# Altium schematic symbol library SamacSys.SchLib: 1311 symbols (part 10 of 14)
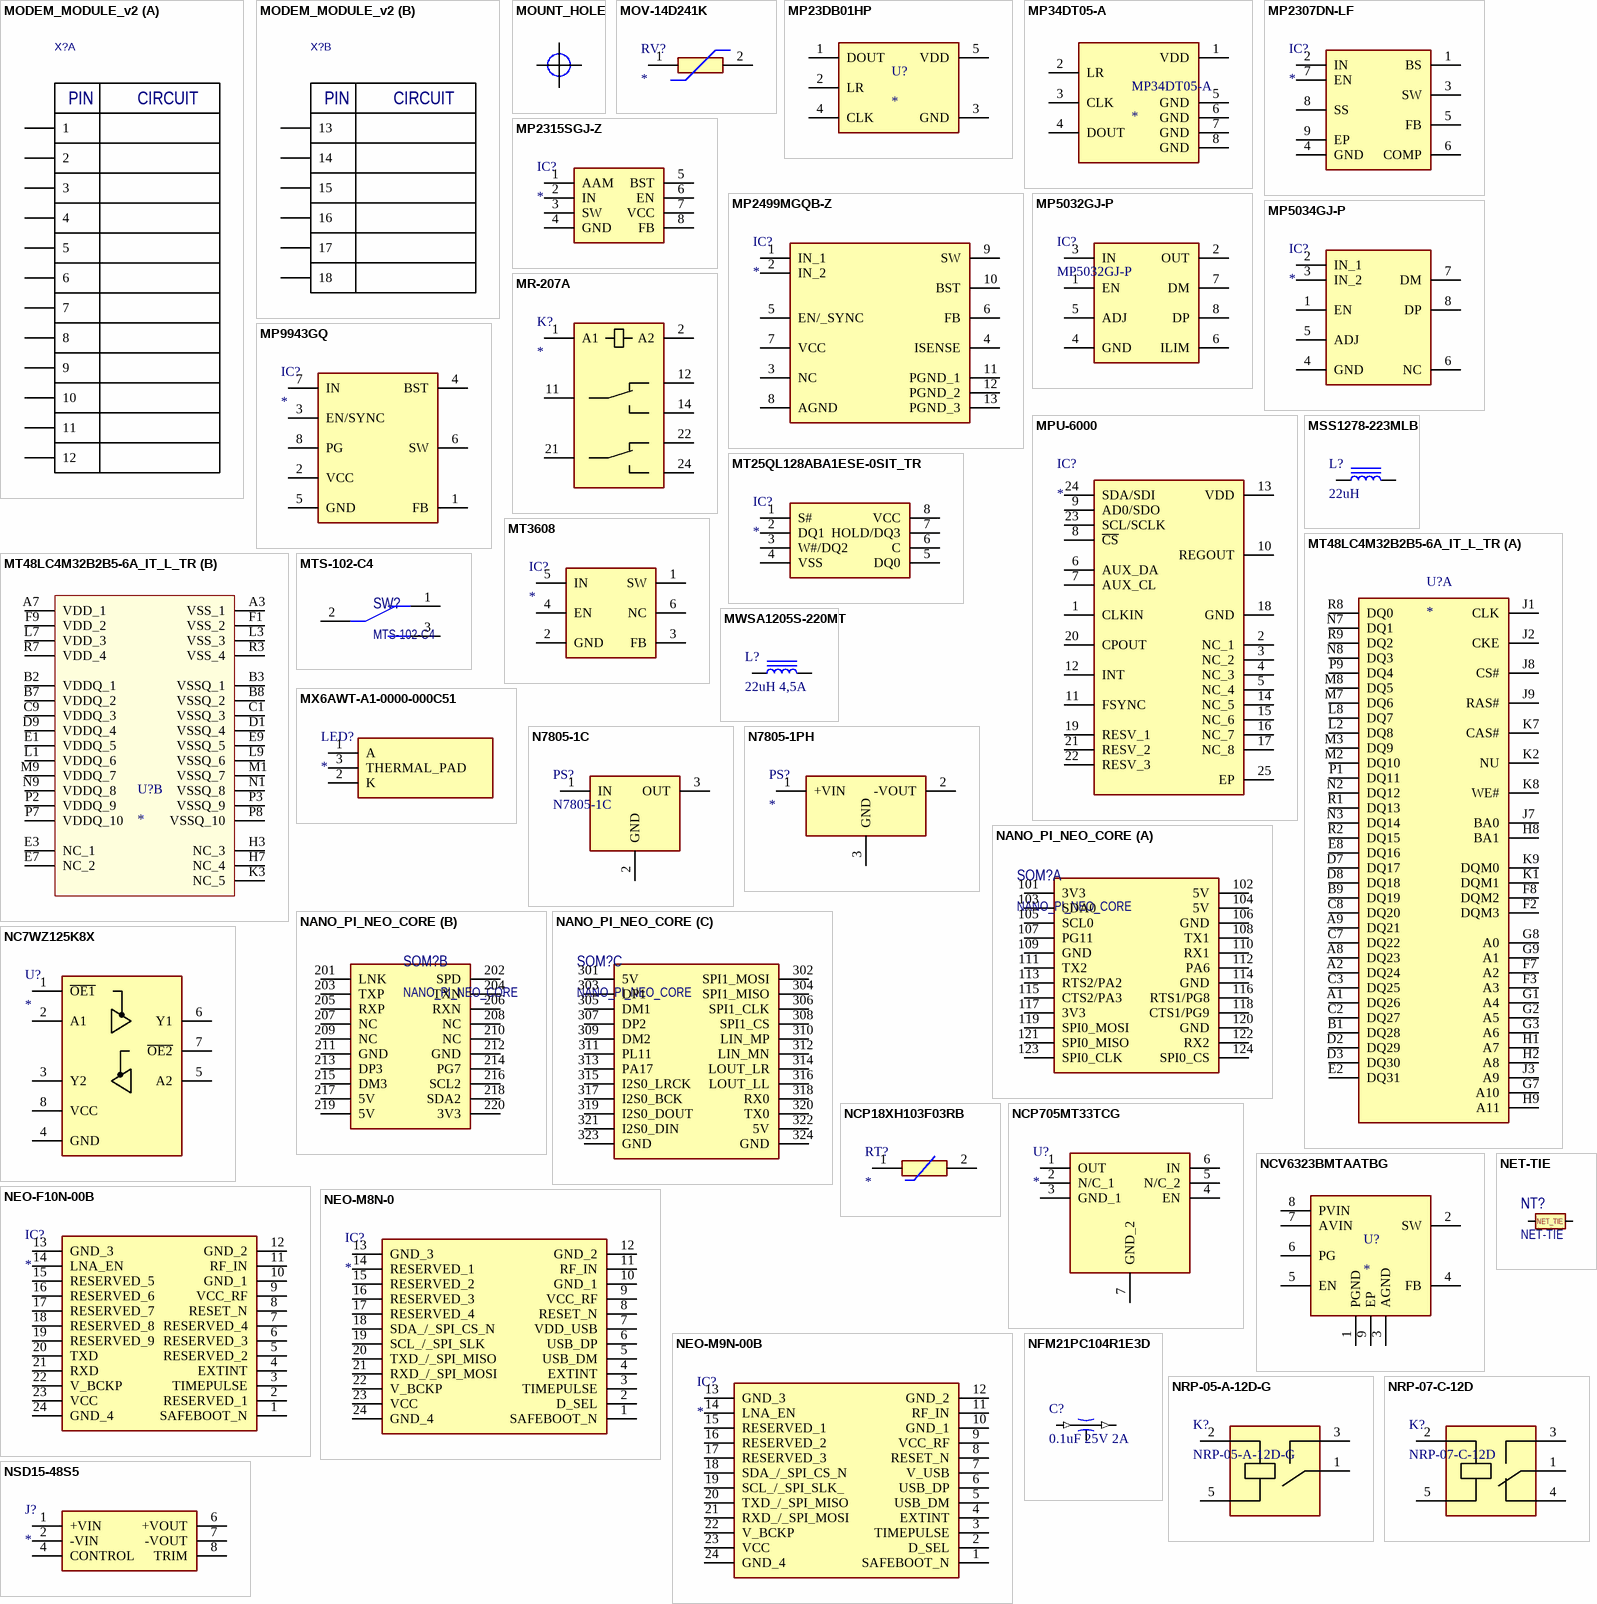
[diagram p59: symbols MODEM_MODULE_v2 to NSD15-48S5]

## NCV6323BMTAATBG
designator U?
Integrated Circuit; Manufacturer_Name: ON Semiconductor; Manufacturer_Part_Number: NCV6323BMTAATBG; Datasheet Link: http://www.onsemi.com/pub/Collateral/NCV6323-D.PDF; Height: 0.8mm; Mouser Part Number: 863-NCV6323BMTAATBG; Mouser Price/Stock: https://www.mouser.com/Search/Refine.aspx?Keyword=863-NCV6323BMTAATBG; Arrow Part Number: NCV6323BMTAATBG; Arrow Price/Stock: https://www.arrow.com/en/products/ncv6323bmtaatbg/on-semiconductor
footprint SON50P200X200X80-9N
pins: 1 PGND, 2 SW, 3 AGND, 4 FB, 5 EN, 6 PG, 7 AVIN, 8 PVIN, 9 EP

## NEO-F10N-00B
designator IC?
Integrated Circuit; Manufacturer_Name: u-blox; Manufacturer_Part_Number: NEO-F10N-00B; Datasheet Link: https://content.u-blox.com/sites/default/files/documents/NEO-F10N_DataSheet_UBX-23002117.pdf; Height: 2.6mm; Mouser Part Number: 377-NEO-F10N-00B; Mouser Price/Stock: https://www.mouser.co.uk/ProductDetail/u-blox/NEO-F10N-00B?qs=Imq1NPwxi76uVH%2FItRhLgw%3D%3D; Arrow Part Number: NEO-F10N-00B; Arrow Price/Stock: null?region=nac
footprint NEOF10N00B (Footprint not found)
pins: 1 SAFEBOOT_N, 2 RESERVED_1, 3 TIMEPULSE, 4 EXTINT, 5 RESERVED_2, 6 RESERVED_3, 7 RESERVED_4, 8 RESET_N, 9 VCC_RF, 10 GND_1, 11 RF_IN, 12 GND_2, 13 GND_3, 14 LNA_EN, 15 RESERVED_5, 16 RESERVED_6, 17 RESERVED_7, 18 RESERVED_8, 19 RESERVED_9, 20 TXD, 21 RXD, 22 V_BCKP, 23 VCC, 24 GND_4

## NEO-M8N-0
designator IC?
Integrated Circuit; Manufacturer_Name: u-blox; Manufacturer_Part_Number: NEO-M8N-0; Datasheet Link: https://www.u-blox.com/sites/default/files/NEO-M8-FW3_DataSheet_%28UBX-15031086%29.pdf; Mouser Part Number: 377-NEO-M8N-0; Mouser Price/Stock: https://www.mouser.co.uk/ProductDetail/u-blox/NEO-M8N-0?qs=zW32dvEIR3unZhZI0KRbew%3D%3D
footprint NEO-M8T
pins: 1 SAFEBOOT_N, 2 D_SEL, 3 TIMEPULSE, 4 EXTINT, 5 USB_DM, 6 USB_DP, 7 VDD_USB, 8 RESET_N, 9 VCC_RF, 10 GND_1, 11 RF_IN, 12 GND_2, 13 GND_3, 14 RESERVED_1, 15 RESERVED_2, 16 RESERVED_3, 17 RESERVED_4, 18 SDA_/_SPI_CS_N, 19 SCL_/_SPI_SLK, 20 TXD_/_SPI_MISO, 21 RXD_/_SPI_MOSI, 22 V_BCKP, 23 VCC, 24 GND_4

## NEO-M9N-00B
designator IC?
Integrated Circuit; Manufacturer_Name: u-blox; Manufacturer_Part_Number: NEO-M9N-00B; Datasheet Link: https://content.u-blox.com/sites/default/files/NEO-M9N-00B_DataSheet_UBX-19014285.pdf; Height: 2.6mm; Mouser Part Number: 377-NEO-M9N-00B; Mouser Price/Stock: https://www.mouser.co.uk/ProductDetail/u-blox/NEO-M9N-00B?qs=DPoM0jnrROVeJ6BHpcwcjw%3D%3D; Arrow Part Number: NEO-M9N-00B; Arrow Price/Stock: https://www.arrow.com/en/products/neo-m9n-00b/u-blox?utm_currency=USD&region=nac
footprint NEOM9N00B (Footprint not found)
pins: 1 SAFEBOOT_N, 2 D_SEL, 3 TIMEPULSE, 4 EXTINT, 5 USB_DM, 6 USB_DP, 7 V_USB, 8 RESET_N, 9 VCC_RF, 10 GND_1, 11 RF_IN, 12 GND_2, 13 GND_3, 14 LNA_EN, 15 RESERVED_1, 16 RESERVED_2, 17 RESERVED_3, 18 SDA_/_SPI_CS_N, 19 SCL_/_SPI_SLK_, 20 TXD_/_SPI_MISO, 21 RXD_/_SPI_MOSI, 22 V_BCKP, 23 VCC, 24 GND_4

## NET-TIE
designator NT?  (net tie, no BOM)
footprint NET_TIE_10mil
footprint NET_TIE_20mil
pins: 1, 2
text: NET_TIE

## NFM21PC104R1E3D
designator С?, comment 0.1uF 25V 2A
CAP FEEDTHRU 0.1UF 20% 25V 2A 0805; Manufacturer_Name: Murata Electronics; Manufacturer_Part_Number: NFM21PC104R1E3D; Datasheet Link: https://psearch.en.murata.com/capacitor/product/NFM21PC104R1E3%23.html; Height: 0.95mm; Mouser Part Number: 81-NFM21PC104R1E3D; Mouser Price/Stock: https://www.mouser.co.uk/ProductDetail/Murata-Electronics/NFM21PC104R1E3D?qs=8PivYkE13dmeIs0sgT9NjA%3D%3D; Arrow Part Number: NFM21PC104R1E3D; Arrow Price/Stock: https://www.arrow.com/en/products/nfm21pc104r1e3d/murata-manufacturing?utm_currency=USD&region=nac; Capacitance: 0.1uF; Rated Voltage: 25V; Value: 0.1uF 25V 2A
footprint NFM21PC104R1E3D; pin to pad 2>2+4
pins: 1 INPUT (in), 2, 3 OUTPUT (out)

## NRP-05-A-12D-G
designator K?
Relay, 12V, 7A/250V; Manufacturer_Name: NCR; Manufacturer_Part_Number: NRP-07-C-12D; Datasheet Link: https://static.chipdip.ru/lib/399/DOC001399110.pdf; Height: 15.9mm
footprint NRP05
pins: 1 COIL_1, 2 NC, 3 NO, 5 COM

## NRP-07-C-12D
designator K?
Relay, 12V, 7A/250V; Manufacturer_Name: NCR; Datasheet Link: https://static.chipdip.ru/lib/399/DOC001399110.pdf; Height: 15.9mm; Manufacturer_Part_Number: NRP-07-C-12D
footprint NRP07C05D
pins: 1 COIL_1, 2 NC, 3 NO, 4 COIL_2, 5 COM

## NSD15-48S5
designator J?
Connector; Manufacturer_Name: Mean Well; Manufacturer_Part_Number: NSD15-48S5; Datasheet Link: https://www.meanwell.com/Upload/PDF/NSD15-S/NSD15-S-SPEC.PDF; Height: 9.82mm; Mouser Part Number: 709-NSD15-48S5; Mouser Price/Stock: https://www.mouser.co.uk/ProductDetail/MEAN-WELL/NSD15-48S5?qs=l0g2inPJSHO%252B3SC1n3K4YQ%3D%3D; Arrow Part Number: NSD15-48S5; Arrow Price/Stock: https://www.arrow.com/en/products/nsd15-48s5/mean-well-enterprises
footprint NSD1548S5
pins: 1 +VIN, 2 -VIN, 4 CONTROL, 6 +VOUT, 7 -VOUT, 8 TRIM

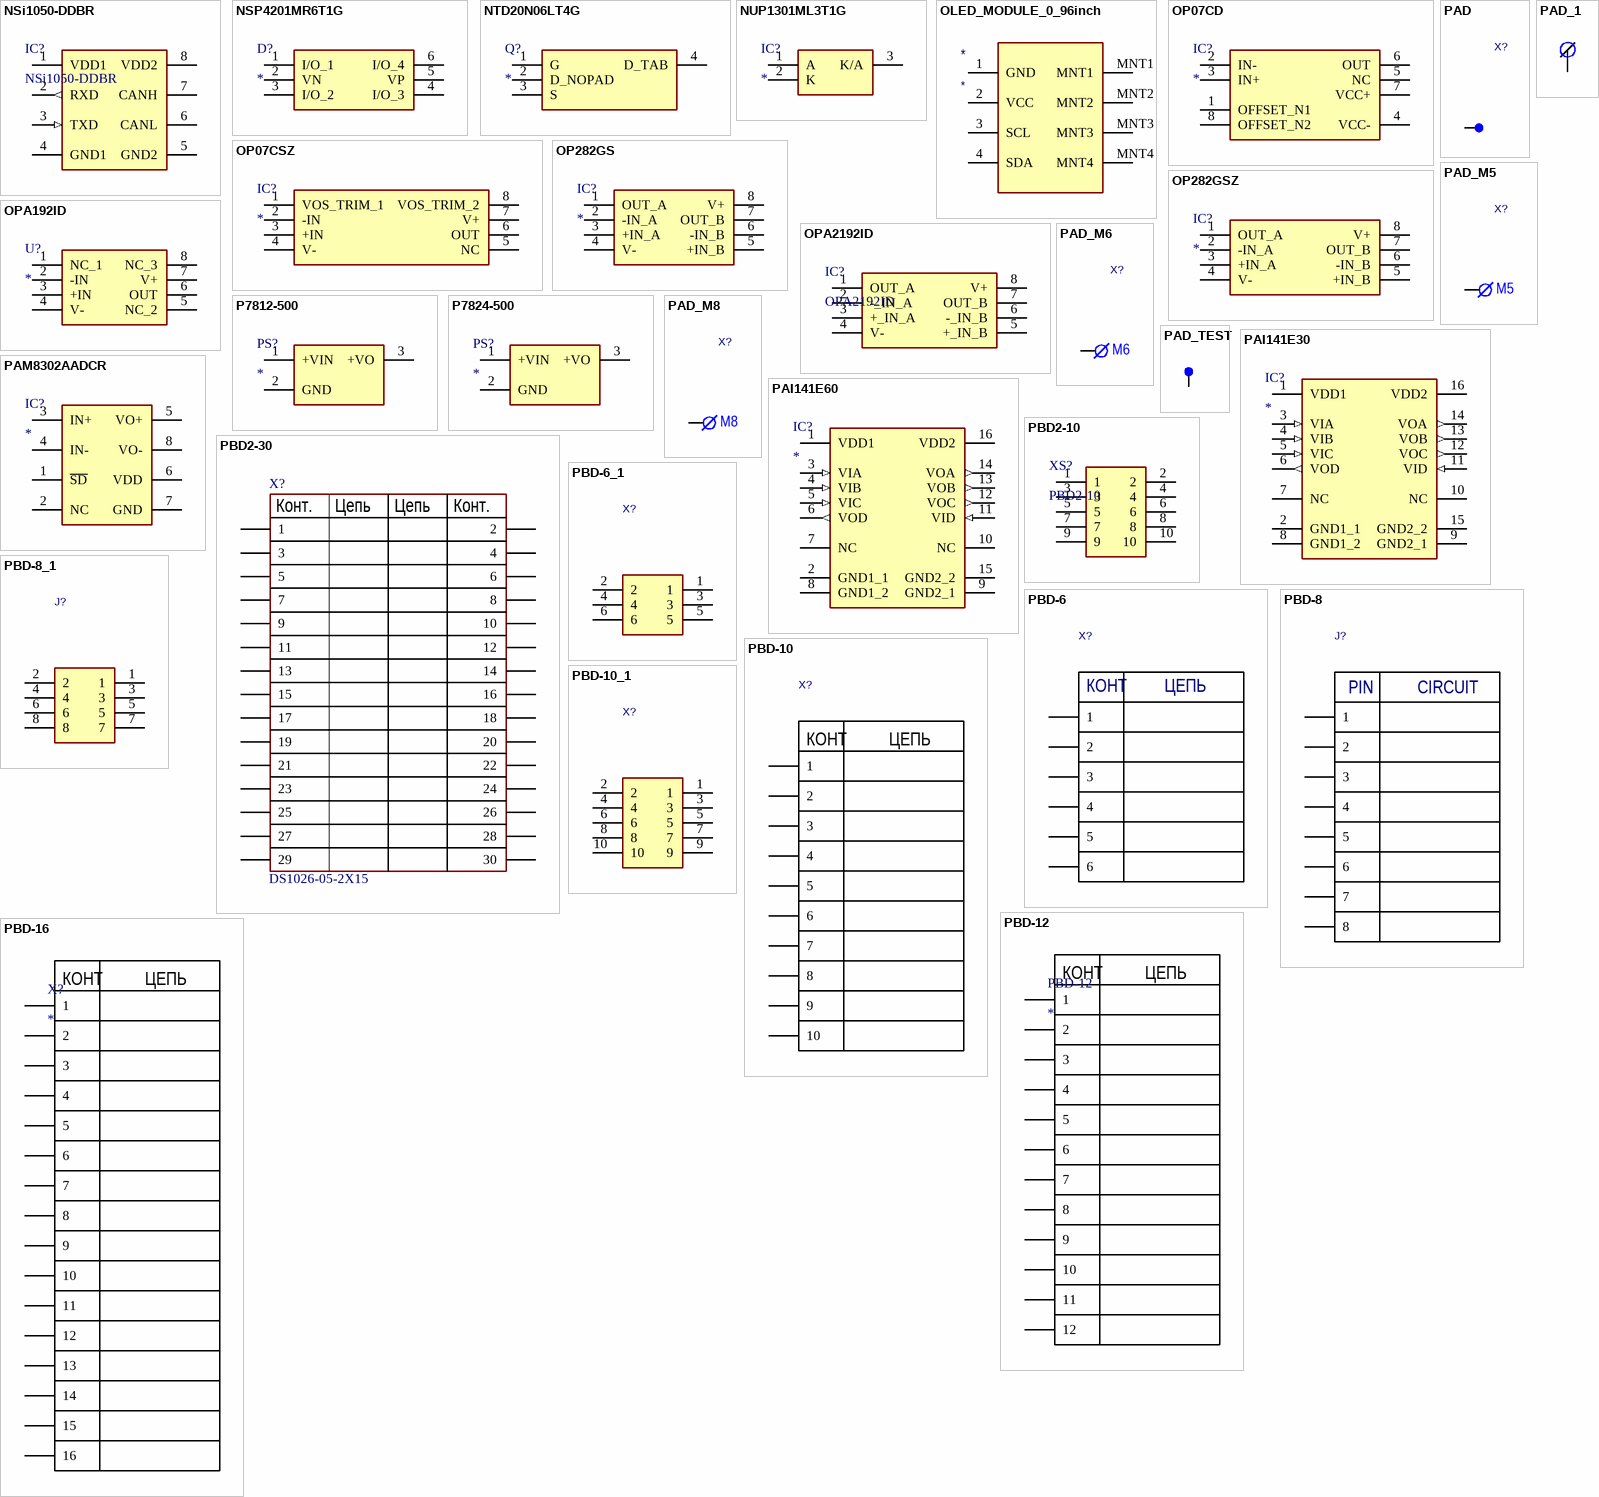
[diagram p32: symbols NSi1050-DDBR to PBD-16]

## NSi1050-DDBR
designator IC?
Integrated Circuit; Manufacturer_Name: Novosense; Datasheet Link: https://datasheet.lcsc.com/lcsc/2205181716_NOVOSENSE-NSI1050-DDBR_C917454.pdf; Height: 4.19mm; Manufacturer_Part_Number: NSi1050-DDBR
footprint SOP254P1040X419-8N
pins: 1 VDD1, 2 RXD (out), 3 TXD (in), 4 GND1, 5 GND2, 6 CANL, 7 CANH, 8 VDD2

## NSP4201MR6T1G
designator D?
Diode; Manufacturer_Name: onsemi; Manufacturer_Part_Number: NSP4201MR6T1G; Datasheet Link: http://www.onsemi.com/pub/Collateral/NSP4201MR6-D.PDF; Height: 1.1mm; Mouser Part Number: 863-NSP4201MR6T1G; Mouser Price/Stock: https://www.mouser.co.uk/ProductDetail/onsemi/NSP4201MR6T1G?qs=HXFqYaX1Q2whaYHWjb5Gzw%3D%3D; Arrow Part Number: NSP4201MR6T1G; Arrow Price/Stock: https://www.arrow.com/en/products/nsp4201mr6t1g/on-semiconductor?region=nac
footprint SOP95P275X110-6N
pins: 1 I/O_1, 2 VN, 3 I/O_2, 4 I/O_3, 5 VP, 6 I/O_4

## NTD20N06LT4G
designator Q?
Transistor; Manufacturer_Name: onsemi; Manufacturer_Part_Number: NTD20N06LT4G; Datasheet Link: http://www.onsemi.com/pub/Collateral/NTD20N06L-D.PDF; Height: 2.38mm; Mouser Part Number: 863-NTD20N06LT4G; Mouser Price/Stock: https://www.mouser.co.uk/ProductDetail/onsemi/NTD20N06LT4G?qs=ZXBb0xZ9WeAQy8iQ%252Bj1%252BFg%3D%3D; Arrow Part Number: NTD20N06LT4G; Arrow Price/Stock: https://www.arrow.com/en/products/ntd20n06lt4g/on-semiconductor
footprint TO229P990X238-4N
pins: 1 G, 2 D_NOPAD, 3 S, 4 D_TAB

## NUP1301ML3T1G
designator IC?
Integrated Circuit; Manufacturer_Name: onsemi; Manufacturer_Part_Number: NUP1301ML3T1G; Datasheet Link: http://www.onsemi.com/pub/Collateral/NUP1301ML3T1-D.PDF; Height: 1.11mm; Mouser Part Number: 863-NUP1301ML3T1G; Mouser Price/Stock: https://www.mouser.co.uk/ProductDetail/onsemi/NUP1301ML3T1G?qs=ZXBb0xZ9WeAPOdRvI26C7A%3D%3D; Arrow Part Number: NUP1301ML3T1G; Arrow Price/Stock: https://www.arrow.com/en/products/nup1301ml3t1g/on-semiconductor?region=nac
footprint SOT96P237X111-3N
pins: 1 A, 2 K, 3 K/A

## OLED_MODULE_0_96inch
designator *
footprint OLED_MODULE_0_96inch
pins: 1 GND, 2 VCC, 3 SCL, 4 SDA, MNT1, MNT2, MNT3, MNT4

## OP07CD
designator IC?
Integrated Circuit; Manufacturer_Name: Texas Instruments; Manufacturer_Part_Number: OP07CD; Datasheet Link: http://www.ti.com/lit/ds/symlink/op07c.pdf; Height: 1.75mm; Mouser Part Number: 595-OP07CD; Mouser Price/Stock: https://www.mouser.co.uk/ProductDetail/Texas-Instruments/OP07CD?qs=6gY4t2uohMzbQf2c%2F7YGgw%3D%3D; Arrow Part Number: OP07CD; Arrow Price/Stock: https://www.arrow.com/en/products/op07cd/texas-instruments?region=nac
footprint SOIC127P600X175-8N
pins: 1 OFFSET_N1, 2 IN-, 3 IN+, 4 VCC-, 5 NC, 6 OUT, 7 VCC+, 8 OFFSET_N2

## OP07CSZ
designator IC?
Integrated Circuit; Manufacturer_Name: Analog Devices; Manufacturer_Part_Number: OP07CSZ; Datasheet Link: http://www.analog.com/static/imported-files/data_sheets/OP07.pdf; Height: 1.75mm; Mouser Part Number: 584-OP07CSZ; Mouser Price/Stock: https://www.mouser.co.uk/ProductDetail/Analog-Devices/OP07CSZ?qs=WIvQP4zGanizySAfbhm6qA%3D%3D; Arrow Part Number: OP07CSZ; Arrow Price/Stock: https://www.arrow.com/en/products/op07csz/analog-devices?region=europe
footprint SOIC127P600X175-8N
pins: 1 VOS_TRIM_1, 2 -IN, 3 +IN, 4 V-, 5 NC, 6 OUT, 7 V+, 8 VOS_TRIM_2

## OP282GS
designator IC?
Integrated Circuit; Manufacturer_Name: Analog Devices; Manufacturer_Part_Number: OP282GS; Datasheet Link: https://componentsearchengine.com/Datasheets/1/OP282GS.pdf; Height: 1.75mm; Mouser Part Number: 584-OP282GS; Mouser Price/Stock: http://www.mouser.com/Search/ProductDetail.aspx?qs=WIvQP4zGanjOndX%252bu88RfQ%3d%3d
footprint SOIC127P600X175-8N
pins: 1 OUT_A, 2 -IN_A, 3 +IN_A, 4 V-, 5 +IN_B, 6 -IN_B, 7 OUT_B, 8 V+

## OP282GSZ
designator IC?
Integrated Circuit; Manufacturer_Name: Analog Devices; Manufacturer_Part_Number: OP282GSZ; Datasheet Link: http://componentsearchengine.com/Datasheets/1/OP282GSZ.pdf; Height: 1.75mm; Mouser Part Number: 584-OP282GSZ; Mouser Price/Stock: https://www.mouser.co.uk/ProductDetail/Analog-Devices/OP282GSZ?qs=WIvQP4zGanhA1FsPCKdzvA%3D%3D
footprint SOIC127P600X175-8N
pins: 1 OUT_A, 2 -IN_A, 3 +IN_A, 4 V-, 5 +IN_B, 6 -IN_B, 7 OUT_B, 8 V+

## OPA192ID
designator U?
Undefined or Miscellaneous; Manufacturer_Name: Texas Instruments; Manufacturer_Part_Number: OPA192ID; Datasheet Link: http://www.ti.com/lit/ds/symlink/opa192.pdf; Height: 1.75mm; Mouser Part Number: 595-OPA192ID; Mouser Price/Stock: https://www.mouser.co.uk/ProductDetail/Texas-Instruments/OPA192ID?qs=wrT8kFYR779tQjMORwdPeQ%3D%3D; Arrow Part Number: OPA192ID; Arrow Price/Stock: https://www.arrow.com/en/products/opa192id/texas-instruments?utm_currency=USD&region=nac
footprint SOIC127P600X175-8N
pins: 1 NC_1, 2 -IN, 3 +IN, 4 V-, 5 NC_2, 6 OUT, 7 V+, 8 NC_3

## OPA2192ID
designator IC?
IC OPAMP GP R2R 2 CIRCUIT 8SOIC; Manufacturer_Name: Texas Instruments; Datasheet Link: http://www.ti.com/lit/ds/symlink/opa2192.pdf; Height: 1.75mm; Manufacturer_Part_Number: OPA2192ID; Mouser Part Number: 595-OPA2192ID; Mouser Price/Stock: https://www.mouser.co.uk/ProductDetail/Texas-Instruments/OPA2192ID?qs=U0ECReq1GB8SZ%252BXtlidzLA%3D%3D; Arrow Part Number: OPA2192ID; Arrow Price/Stock: https://www.arrow.com/en/products/opa2192id/texas-instruments.html?utm_currency=USD&region=nac
footprint SOIC127P600X175-8N
pins: 1 OUT_A, 2 -_IN_A, 3 +_IN_A, 4 V-, 5 +_IN_B, 6 -_IN_B, 7 OUT_B, 8 V+

## P7812-500
designator PS?
Power Supply; Manufacturer_Name: CUI Devices; Manufacturer_Part_Number: P7812-500; Datasheet Link: https://www.cui.com/product/resource/digikeypdf/p78-500.pdf; Height: 18mm; Mouser Part Number: 490-P7812-500; Mouser Price/Stock: https://www.mouser.co.uk/ProductDetail/CUI-Inc/P7812-500?qs=tlsG%2FOw5FFgz85sEtEpyxQ%3D%3D
footprint P7812500
pins: 1 +VIN, 2 GND, 3 +VO

## P7824-500
designator PS?
Power Supply; Manufacturer_Name: CUI Devices; Manufacturer_Part_Number: P7824-500; Datasheet Link: https://www.cui.com/product/resource/digikeypdf/p78-500.pdf; Height: 18mm; Mouser Part Number: 490-P7824-500; Mouser Price/Stock: https://eu.mouser.com/ProductDetail/CUI-Inc/P7824-500?qs=sGAEpiMZZMsc0tfZmXiUnTr9pnMRotOJ1Zj5cWE756mXQl5Bl87AIw%3D%3D
footprint P7812500
pins: 1 +VIN, 2 GND, 3 +VO

## PAD
designator X?  (value not drawn)  (no BOM)
Power Pad; Manufacturer: {Manufacturer}; Reseller3: {Reseller3}; Reseller1: {Reseller1}; Tempcoeff: {Tempcoeff}; Reseller2: {Reseller2}; Tolerance: {Tolerance}; Value: {Value}; PowerVoltage: {PowerVoltage}; CatalogueCode: {CatalogueCode}; Case: {Case}
footprint POWERPAD_ROU_2.4/1.5
footprint POWERPAD_SQ_5/3
footprint POWERPAD_SQ_8/4
footprint pad_test_th_small
footprint PAD_POWER_SQ_6/3
footprint POWERPAD_ROU_2.2/0.9
footprint POWERPAD_ROU_2.2/1.4
footprint POWERPAD_BLADE_H connector
footprint POWERPAD_ROU_2.2/1.0
footprint POWERPAD_ROU_2.2/1.3
footprint PAD_TH_1.4/0.6
footprint POWERPAD_ROU_7/3.2
footprint POWERPAD_4.5mm (H4.5 / OUT9)
footprint POWERPAD_3.5mm (H3.5 / OUT6.5)
pins: 1

## PAD_1
designator XT?  (value not drawn)
Value: *
footprint PAD_RECT
pins: 1

## PAD_M5
designator X?, comment PAD  (value not drawn)  (no BOM)
Power Pad; Manufacturer: {Manufacturer}; Reseller3: {Reseller3}; Reseller1: {Reseller1}; Tempcoeff: {Tempcoeff}; Reseller2: {Reseller2}; Tolerance: {Tolerance}; Value: {Value}; PowerVoltage: {PowerVoltage}; CatalogueCode: {CatalogueCode}; Case: {Case}
footprint POWERPAD_M5
pins: 1
text: M5

## PAD_M6
designator X?, comment PAD  (value not drawn)  (no BOM)
Power Pad; Manufacturer: {Manufacturer}; Reseller3: {Reseller3}; Reseller1: {Reseller1}; Tempcoeff: {Tempcoeff}; Reseller2: {Reseller2}; Tolerance: {Tolerance}; Value: {Value}; PowerVoltage: {PowerVoltage}; CatalogueCode: {CatalogueCode}; Case: {Case}
footprint POWERPAD_M6
pins: 1
text: M6

## PAD_M8
designator X?, comment PAD  (value not drawn)  (no BOM)
Power Pad; Manufacturer: {Manufacturer}; Reseller3: {Reseller3}; Reseller1: {Reseller1}; Tempcoeff: {Tempcoeff}; Reseller2: {Reseller2}; Tolerance: {Tolerance}; Value: {Value}; PowerVoltage: {PowerVoltage}; CatalogueCode: {CatalogueCode}; Case: {Case}
footprint POWERPAD_M8
pins: 1
text: M8

## PAD_TEST
designator TP?  (value not drawn)  (no BOM)
Test Point; Manufacturer: {Manufacturer}; Reseller3: {Reseller3}; Reseller1: {Reseller1}; Tempcoeff: {Tempcoeff}; Reseller2: {Reseller2}; Tolerance: {Tolerance}; Value: .NetName; PowerVoltage: {PowerVoltage}; CatalogueCode: {CatalogueCode}; Case: {Case}
footprint PAD_TEST_0.8mm
footprint PAD_TEST_3DPROBE
footprint PAD_TEST_3DPROBE_OUT
footprint PAD_TEST_1.4mm
footprint PAD_TEST_1.0mm
footprint PAD_TEST_2.0mm
footprint PAD_TEST_3.0mm
pins: 1

## PAI141E30
designator IC?
Integrated Circuit, / DGTL ISO 200Mbs 4CH; Manufacturer_Name: 2PAI; Manufacturer_Part_Number: PAI141E30; Datasheet Link: https://www.rpsemi.com/uploads/soft/20230314/2-23031415501G92.pdf; Height: 2.65mm
footprint SOIC127P600X175-16N
pins: 1 VDD1, 2 GND1_1, 3 VIA (in), 4 VIB (in), 5 VIC (in), 6 VOD (out), 7 NC, 8 GND1_2, 9 GND2_1, 10 NC, 11 VID (in), 12 VOC (out), 13 VOB (out), 14 VOA (out), 15 GND2_2, 16 VDD2

## PAI141E60
designator IC?
Integrated Circuit, / DGTL ISO 200Mbs 4CH; Manufacturer_Name: 2PAI; Manufacturer_Part_Number: PAI141E60; Datasheet Link: https://www.rpsemi.com/uploads/soft/20230314/2-23031415501G92.pdf; Height: 2.65mm
footprint SOIC127P1032X265-16N
pins: 1 VDD1, 2 GND1_1, 3 VIA (in), 4 VIB (in), 5 VIC (in), 6 VOD (out), 7 NC, 8 GND1_2, 9 GND2_1, 10 NC, 11 VID (in), 12 VOC (out), 13 VOB (out), 14 VOA (out), 15 GND2_2, 16 VDD2

## PAM8302AADCR
designator IC?
Integrated Circuit; Manufacturer_Name: Diodes Incorporated; Manufacturer_Part_Number: PAM8302AADCR; Datasheet Link: https://www.diodes.com//assets/Datasheets/products_inactive_data/PAM8301.pdf; Height: 1.7mm; Mouser Part Number: 621-PAM8302AADCR; Mouser Price/Stock: https://www.mouser.co.uk/ProductDetail/Diodes-Incorporated/PAM8302AADCR?qs=pYVYkI7xuRUGP4ZWq1B6zQ%3D%3D; Arrow Part Number: PAM8302AADCR; Arrow Price/Stock: null?region=nac
footprint SOIC127P600X170-8N
pins: 1 ~{SD}, 2 NC, 3 IN+, 4 IN-, 5 VO+, 6 VDD, 7 GND, 8 VO-

## PBD2-10
designator XS?
Connector; Manufacturer_Name: Sullins; Manufacturer_Part_Number: NPPN052AFCN-RC; Manufacturer: Connfly; Datasheet Link: https://drawings-pdf.s3.amazonaws.com/10483.pdf; Height: 4.4mm; Part Number: PBD2-10
footprint PBD2-10
pins: 1, 2, 3, 4, 5, 6, 7, 8, 9, 10

## PBD2-30
designator X?, comment DS1026-05-2X15
Connector 2x15 pin 2mm
footprint DS1026-05-2X15
pins: 1, 2, 3, 4, 5, 6, 7, 8, 9, 10, 11, 12, 13, 14, 15, 16, 17, 18, 19, 20, 21, 22, 23, 24, 25, 26, 27, 28, 29, 30
text: Конт.; Цепь

## PBD-6
designator X?  (value not drawn)
Connector; Manufacturer: Connfly; Part Number1: DS-1023 - 2x3; System: Connector; Part Number: PBD-6
footprint PBD-6
pins: 1, 2, 3, 4, 5, 6
text: КОНТ; ЦЕПЬ

## PBD-6_1
designator X?, comment PBD-6  (value not drawn)
Connector; Manufacturer: Connfly; Part Number1: DS-1023 - 2x3; System: Connector; Part Number: PBD-6
footprint PBD-6
pins: 1, 2, 3, 4, 5, 6

## PBD-8
designator J?  (value not drawn)
Connector; Manufacturer: Connfly; Part Number1: DS-1023-2x4; Part Number: PBD-8; System: Connector
footprint PBD-8 (Footprint not found)
footprint PBD-8_SIM800
pins: 1, 2, 3, 4, 5, 6, 7, 8
text: PIN; CIRCUIT

## PBD-8_1
designator J?, comment PBD-8  (value not drawn)
Connector; Manufacturer: Connfly; Part Number1: DS-1023-2x4; Part Number: PBD-8; System: Connector
footprint PBD-8
pins: 1, 2, 3, 4, 5, 6, 7, 8

## PBD-10
designator X?  (value not drawn)
Connector; Manufacturer: Connfly; Part Number1: DS-1023-2x5; Part Number: PBD-10; System: Connector
footprint PBD-10 (Footprint not found)
pins: 1, 2, 3, 4, 5, 6, 7, 8, 9, 10
text: КОНТ; ЦЕПЬ

## PBD-10_1
designator X?, comment PBD-10  (value not drawn)
Connector; Manufacturer: Connfly; Part Number1: DS-1023-2x5; Part Number: PBD-10; System: Connector
footprint PBD-10 (Footprint not found)
pins: 1, 2, 3, 4, 5, 6, 7, 8, 9, 10

## PBD-12
designator PBD-12
Connector; Manufacturer: Connfly; Part Number1: DS1023-2x6; Part Number: PBD-16; Height: 8.5mm; System: Connector
footprint PBD-12
pins: 1, 2, 3, 4, 5, 6, 7, 8, 9, 10, 11, 12
text: КОНТ; ЦЕПЬ

## PBD-16
designator X?
Connector; Manufacturer: Connfly; Part Number1: DS1023-2x8; Part Number: PBD-16; Height: 8.5mm; System: Connector
footprint RHDR16W60P254_2X8_2082X500X850P
pins: 1, 2, 3, 4, 5, 6, 7, 8, 9, 10, 11, 12, 13, 14, 15, 16
text: КОНТ; ЦЕПЬ

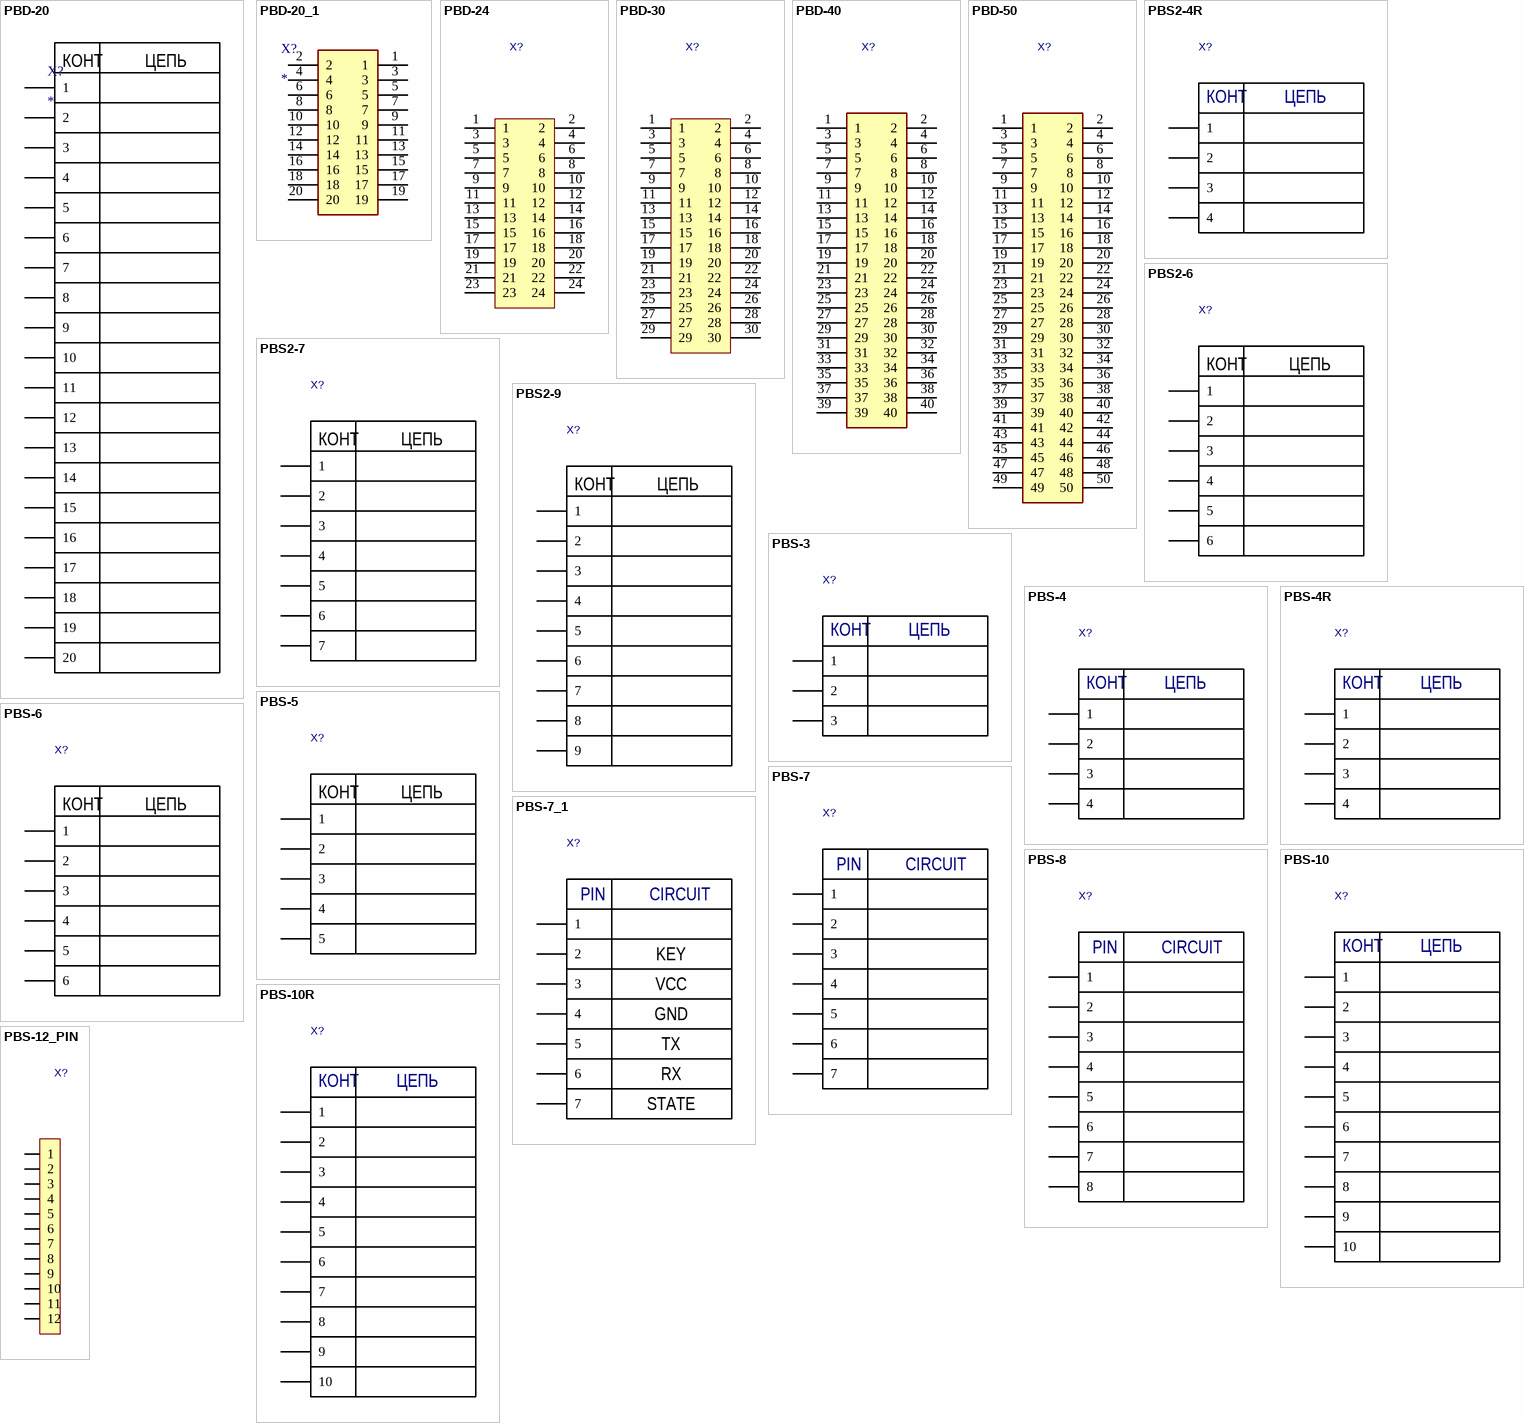
[diagram p33: symbols PBD-20 to PBS-12_PIN]

## PBD-20
designator X?
Connector; Manufacturer: Connfly; Part Number: PBD-20; Part Number1: DS1023-2*10; Height: 8.5mm; System: Connector
footprint PBD-20
pins: 1, 2, 3, 4, 5, 6, 7, 8, 9, 10, 11, 12, 13, 14, 15, 16, 17, 18, 19, 20
text: КОНТ; ЦЕПЬ

## PBD-20_1
designator X?
Connector; Manufacturer: Connfly; Part Number: PBD-20; Part Number1: DS1023-2*10; Height: 8.5mm; System: Connector
footprint PBD-20
pins: 1, 2, 3, 4, 5, 6, 7, 8, 9, 10, 11, 12, 13, 14, 15, 16, 17, 18, 19, 20

## PBD-24
designator X?  (value not drawn)
Connector; Manufacturer: Connfly; Part Number: PBD-30; Part Number1: DS-1023-2x12; System: Connector
footprint PBD-24 (Footprint not found)
pins: 1, 2, 3, 4, 5, 6, 7, 8, 9, 10, 11, 12, 13, 14, 15, 16, 17, 18, 19, 20, 21, 22, 23, 24

## PBD-30
designator X?  (value not drawn)
Connector; Manufacturer: Connfly; Part Number1: DS-1023-2x15; System: Connector; Part Number: PBD-30
footprint PBD-30
pins: 1, 2, 3, 4, 5, 6, 7, 8, 9, 10, 11, 12, 13, 14, 15, 16, 17, 18, 19, 20, 21, 22, 23, 24, 25, 26, 27, 28, 29, 30

## PBD-40
designator X?  (value not drawn)
Connector; Manufacturer: Connfly; Part Number1: DS-1023-2x20; System: Connector; Part Number: PBD-40
footprint PBD-40 (Footprint not found)
pins: 1, 2, 3, 4, 5, 6, 7, 8, 9, 10, 11, 12, 13, 14, 15, 16, 17, 18, 19, 20, 21, 22, 23, 24, 25, 26, 27, 28, 29, 30, 31, 32, 33, 34, 35, 36, 37, 38, 39, 40

## PBD-50
designator X?  (value not drawn)
Connector; Manufacturer: Connfly; Part Number: PBD-40; Part Number1: DS-1023-2x20; System: Connector
footprint PBD-50 (Footprint not found)
pins: 1, 2, 3, 4, 5, 6, 7, 8, 9, 10, 11, 12, 13, 14, 15, 16, 17, 18, 19, 20, 21, 22, 23, 24, 25, 26, 27, 28, 29, 30, 31, 32, 33, 34, 35, 36, 37, 38, 39, 40, 41, 42, 43, 44, 45, 46, 47, 48, 49, 50

## PBS2-4R
designator X?  (value not drawn)
Connector; Manufacturer: hanxia HX; Part Number: PM2.0-1x4P WC H6.35; System: Connector
footprint PBS2-4R
pins: 1, 2, 3, 4
text: КОНТ; ЦЕПЬ

## PBS2-6
designator X?  (value not drawn)
Connector, Header, Pitch 2mm, H=4.3mm; Manufacturer: Connfly; Part Number1: DS-1026-01x6; Part Number: PBS2-6; System: Connector
footprint PBS2-6
pins: 1, 2, 3, 4, 5, 6
text: КОНТ; ЦЕПЬ

## PBS2-7
designator X?  (value not drawn)
Connector, Header, Pitch 2mm, H=4.3mm; Manufacturer: Connfly; Part Number1: DS-1026-01x7; Part Number: PBS2-7; System: Connector
footprint PBS2-7 (Footprint not found)
pins: 1, 2, 3, 4, 5, 6, 7
text: КОНТ; ЦЕПЬ

## PBS2-9
designator X?  (value not drawn)
Connector, Header, Pitch 2mm, H=4.3mm; Manufacturer: Connfly; Part Number1: DS-1026-01x9; Part Number: PBS2-9; System: Connector
footprint PBS2-9 (Footprint not found)
pins: 1, 2, 3, 4, 5, 6, 7, 8, 9
text: КОНТ; ЦЕПЬ

## PBS-3
designator X?  (value not drawn)
Connector; Manufacturer: Connfly; Part Number1: DS-1023-1x3; System: Connector; Part Number: PBS-3
footprint PBS-3 (Footprint not found)
pins: 1, 2, 3
text: КОНТ; ЦЕПЬ

## PBS-4
designator X?  (value not drawn)
Connector; Manufacturer: Connfly; Part Number1: DS-1023-1x4; System: Connector; Part Number: PBS-4
footprint PBS-4
pins: 1, 2, 3, 4
text: КОНТ; ЦЕПЬ

## PBS-4R
designator X?  (value not drawn)
Connector; Manufacturer: Connfly; Part Number: PBS-4; Part Number1: DS-1023-1x4; System: Connector
footprint PBS-4R
pins: 1, 2, 3, 4
text: КОНТ; ЦЕПЬ

## PBS-5
designator X?  (value not drawn)
Connector; Manufacturer: Connfly; Part Number: PBD-5; Part Number1: DS-1023-1x5; System: Connector
footprint PBS-5
pins: 1, 2, 3, 4, 5
text: КОНТ; ЦЕПЬ

## PBS-6
designator X?  (value not drawn)
Connector; Manufacturer: Connfly; Part Number: PBD-6; Part Number1: DS-1023-1x6; System: Connector
footprint PBS-6
pins: 1, 2, 3, 4, 5, 6
text: КОНТ; ЦЕПЬ

## PBS-7
designator X?  (value not drawn)
Connector; Manufacturer: Connfly; Part Number: PBD-7; Part Number1: DS-1023-1x7; System: Connector
footprint PBS-7 (Footprint not found)
pins: 1, 2, 3, 4, 5, 6, 7
text: PIN; CIRCUIT

## PBS-7_1
designator X?, comment PBS-7  (value not drawn)
Connector; Manufacturer: Connfly; Part Number: PBS-7 + HC-06 BT Module; Part Number1: DS-1023-1x7; System: Connector
footprint PBS-7+HC-06 Module
pins: 1, 2, 3, 4, 5, 6, 7
text: PIN; CIRCUIT; KEY; VCC; GND; TX; RX; STATE

## PBS-8
designator X?  (value not drawn)
Connector; Manufacturer: Connfly; Part Number: PBD-8; Part Number1: DS-1023-1x8; System: Connector
footprint PBS-8
pins: 1, 2, 3, 4, 5, 6, 7, 8
text: PIN; CIRCUIT

## PBS-10
designator X?  (value not drawn)
Connector; Manufacturer: Connfly; Part Number1: DS-1023-1x10; System: Connector; Part Number: PBS-10
footprint PBS-10
footprint PBS-10_MPU9250
pins: 1, 2, 3, 4, 5, 6, 7, 8, 9, 10
text: КОНТ; ЦЕПЬ

## PBS-10R
designator X?  (value not drawn)
Connector; Manufacturer: Connfly; Part Number1: DS-1024-1x10R; System: Connector; Part Number: PBS-10R
footprint PBS-10R
pins: 1, 2, 3, 4, 5, 6, 7, 8, 9, 10
text: КОНТ; ЦЕПЬ

## PBS-12_PIN
designator X?, comment PBS-12  (value not drawn)
Connector; Manufacturer: Connfly; Part Number1: DS-1023-1x12; System: Connector; Part Number: PBS-12
footprint PBS-12 (Footprint not found)
pins: 1, 2, 3, 4, 5, 6, 7, 8, 9, 10, 11, 12

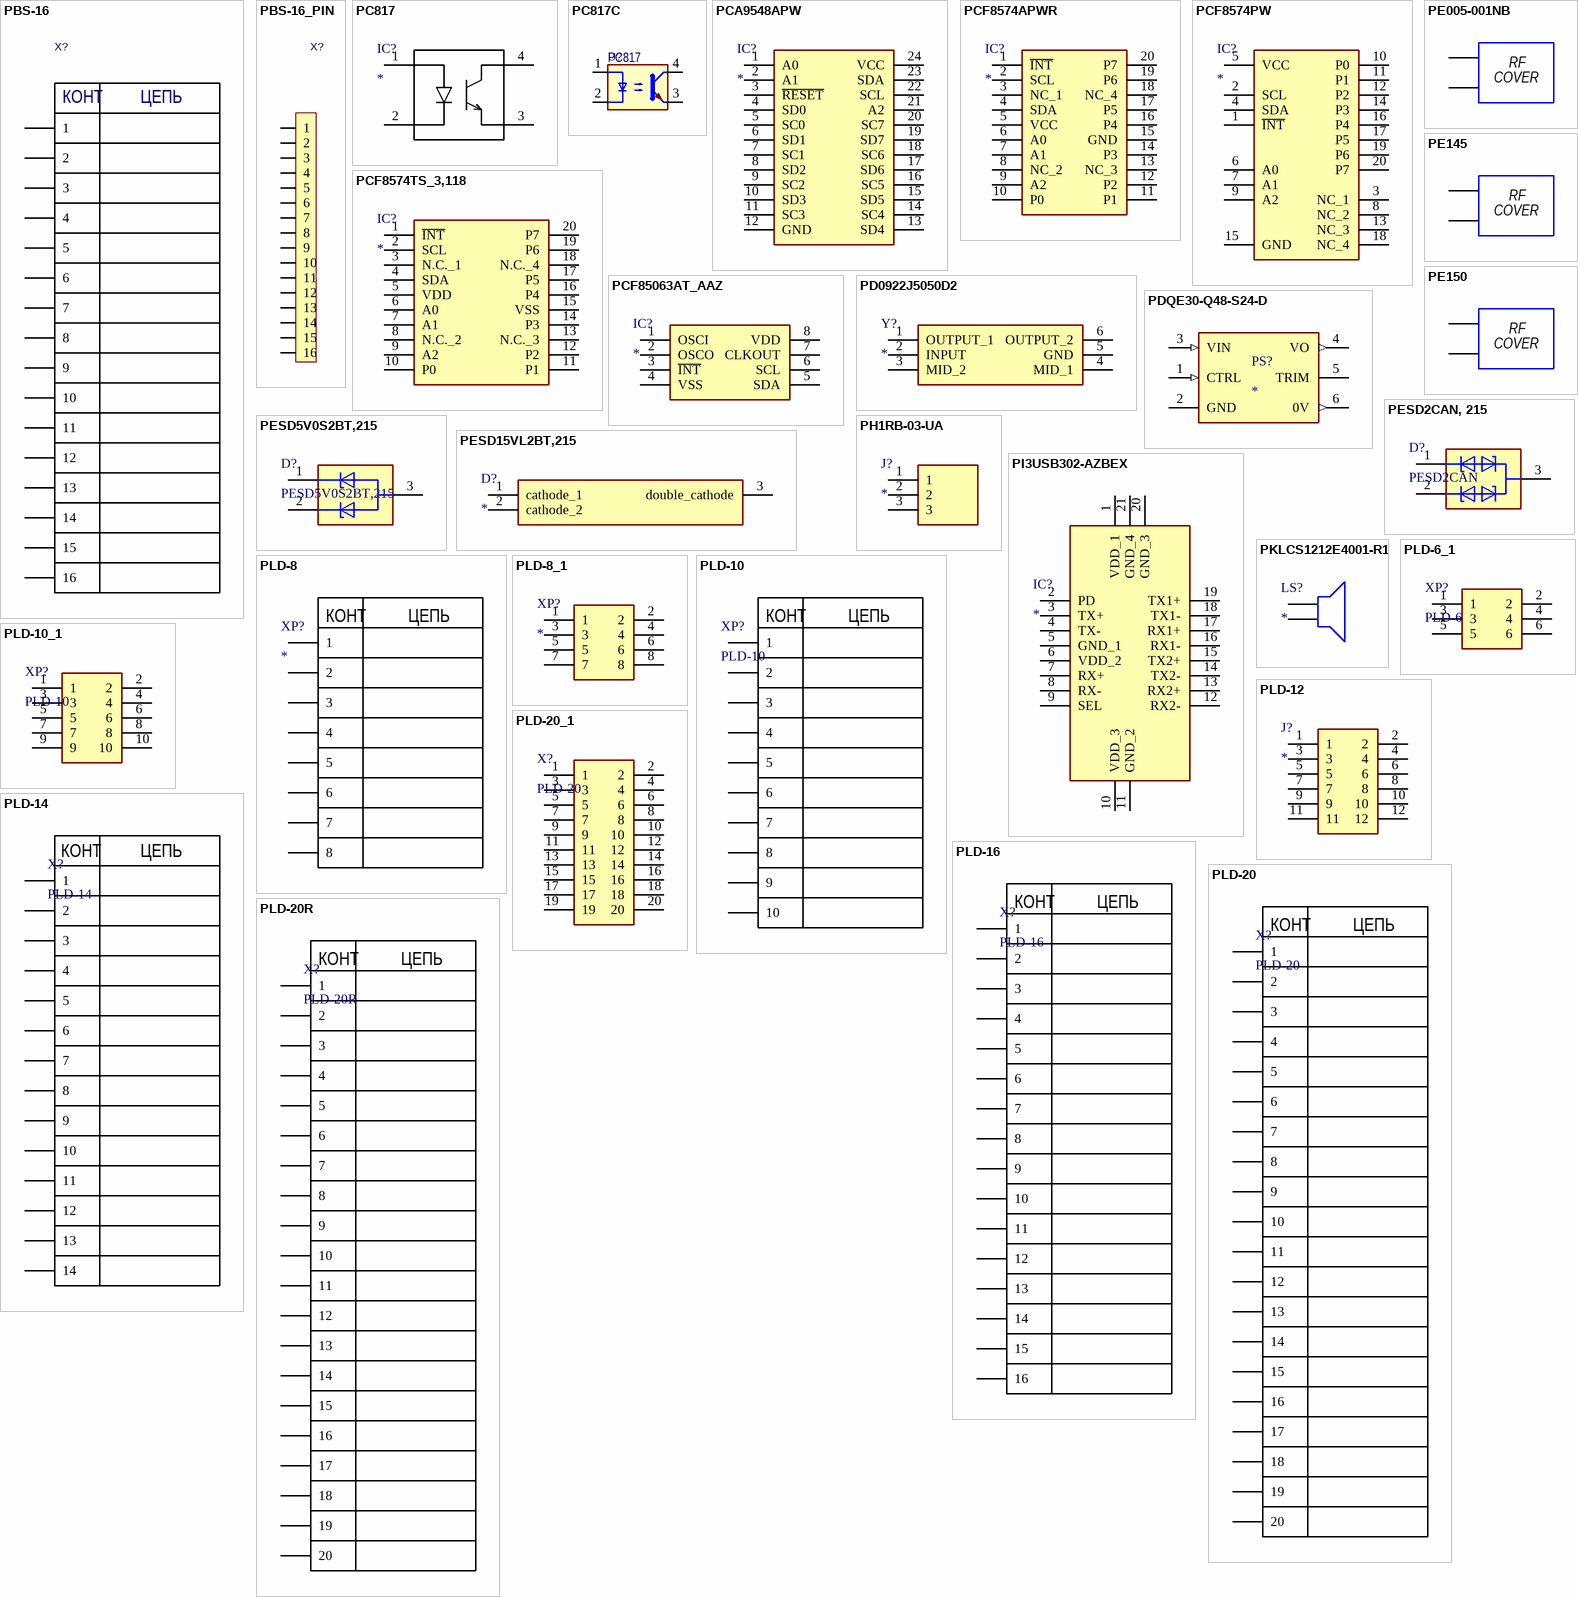
[diagram p34: symbols PBS-16 to PLD-20R]

## PBS-16
designator X?  (value not drawn)
Connector; Manufacturer: Connfly; Part Number1: DS-1023-1x16; System: Connector; Part Number: PBS-16
footprint PBS-16
pins: 1, 2, 3, 4, 5, 6, 7, 8, 9, 10, 11, 12, 13, 14, 15, 16
text: КОНТ; ЦЕПЬ

## PBS-16_PIN
designator X?, comment PBS-16  (value not drawn)
Connector; Manufacturer: Connfly; Part Number1: DS-1023-1x16; System: Connector; Part Number: PBS-16
footprint PBS-16
pins: 1, 2, 3, 4, 5, 6, 7, 8, 9, 10, 11, 12, 13, 14, 15, 16

## PC817
designator IC?
Integrated Circuit; Manufacturer_Name: Sharp Microelectronics; Manufacturer_Part_Number: PC817X2NSZ0F; Datasheet Link: https://datasheet.datasheetarchive.com/originals/distributors/Datasheets_SAMA/458e45842a103a05998fcebbd6f7366e.pdf; Height: 4mm; Mouser Part Number: N/A; Mouser Price/Stock: https://www.mouser.co.uk/ProductDetail/Sharp-Microelectronics/PC817X2NSZ0F?qs=6kT3pPPHxnU7uYWM8Yy85A%3D%3D
footprint DIP762W60P254L458H400Q4N
pins: 1 ANODE, 2 CATHODE, 3 EMITTER, 4 COLLECTOR

## PC817C
designator U?, comment value PC817  (hidden comment: PC817 (SMD-4))
OPTOISOLATOR 5KV 1CH TRANS 4-SMD
footprint SOP254P1016X460-4N
pins: 1, 2, 3, 4

## PCA9548APW
designator IC?
Integrated Circuit; Manufacturer_Name: Texas Instruments; Manufacturer_Part_Number: PCA9548APW; Datasheet Link: http://www.ti.com/lit/ds/symlink/pca9548a.pdf; Height: 1.2mm; Mouser Part Number: 595-PCA9548APW; Mouser Price/Stock: https://www.mouser.co.uk/ProductDetail/Texas-Instruments/PCA9548APW?qs=iSMark9AYDUcRAvPZkZvig%3D%3D; Arrow Part Number: PCA9548APW; Arrow Price/Stock: https://www.arrow.com/en/products/pca9548apw/texas-instruments?region=nac
footprint SOP65P640X120-24N
pins: 1 A0, 2 A1, 3 ~{RESET}, 4 SD0, 5 SC0, 6 SD1, 7 SC1, 8 SD2, 9 SC2, 10 SD3, 11 SC3, 12 GND, 13 SD4, 14 SC4, 15 SD5, 16 SC5, 17 SD6, 18 SC6, 19 SD7, 20 SC7, 21 A2, 22 SCL, 23 SDA, 24 VCC

## PCF8574APWR
designator IC?
Integrated Circuit; Manufacturer_Name: Texas Instruments; Manufacturer_Part_Number: PCF8574APWR; Datasheet Link: http://www.ti.com/lit/ds/symlink/pcf8574a.pdf; Height: 1.2mm; Mouser Part Number: 595-PCF8574APWR; Mouser Price/Stock: https://www.mouser.co.uk/ProductDetail/Texas-Instruments/PCF8574APWR?qs=bkMXpVdiF42gbWVI8U3xeA%3D%3D; Arrow Part Number: PCF8574APWR; Arrow Price/Stock: https://www.arrow.com/en/products/pcf8574apwr/texas-instruments?utm_currency=USD&region=nac
footprint SOP65P640X120-20N
pins: 1 ~{INT}, 2 SCL, 3 NC_1, 4 SDA, 5 VCC, 6 A0, 7 A1, 8 NC_2, 9 A2, 10 P0, 11 P1, 12 P2, 13 NC_3, 14 P3, 15 GND, 16 P4, 17 P5, 18 NC_4, 19 P6, 20 P7

## PCF8574PW
designator IC?
Integrated Circuit; Manufacturer_Name: Texas Instruments; Manufacturer_Part_Number: PCF8574PW; Datasheet Link: https://www.ti.com/lit/ds/symlink/pcf8574.pdf?ts=1599897350462&ref_url=https%253A%252F%252Fwww.ti.com%252Fstore%252Fti%252Fen%252Fp%252Fproduct%252F%253Fp%253DPCF8574PW%2526keyMatch%253DPCF8574PW%2526tisearch%253DSearch-EN-everything%2526usecase%253DOPN; Height: 1.2mm; Mouser Part Number: 595-PCF8574PW; Mouser Price/Stock: https://www.mouser.co.uk/ProductDetail/Texas-Instruments/PCF8574PW?qs=wgAEGBTxy7nGas5ljMOEVg%3D%3D; Arrow Part Number: PCF8574PW; Arrow Price/Stock: https://www.arrow.com/en/products/pcf8574pw/texas-instruments?region=nac
footprint SOP65P640X120-20N
pins: 1 ~{INT}, 2 SCL, 3 NC_1, 4 SDA, 5 VCC, 6 A0, 7 A1, 8 NC_2, 9 A2, 10 P0, 11 P1, 12 P2, 13 NC_3, 14 P3, 15 GND, 16 P4, 17 P5, 18 NC_4, 19 P6, 20 P7

## PCF8574TS_3,118
designator IC?
Integrated Circuit; Manufacturer_Name: NXP; Manufacturer_Part_Number: PCF8574TS/3,118; Datasheet Link: http://www.nxp.com/docs/en/data-sheet/PCF8574_PCF8574A.pdf; Height: 1.5mm; Mouser Part Number: 771-PCF8574TDK-T; Mouser Price/Stock: https://www.mouser.co.uk/ProductDetail/NXP-Semiconductors/PCF8574TS-3118?qs=LOCUfHb8d9s6DQR34Mm8kg%3D%3D; Arrow Part Number: PCF8574TS/3,118; Arrow Price/Stock: https://www.arrow.com/en/products/pcf8574ts3118/nxp-semiconductors?region=nac
footprint SOP65P640X150-20N
pins: 1 ~{INT}, 2 SCL, 3 N.C._1, 4 SDA, 5 VDD, 6 A0, 7 A1, 8 N.C._2, 9 A2, 10 P0, 11 P1, 12 P2, 13 N.C._3, 14 P3, 15 VSS, 16 P4, 17 P5, 18 N.C._4, 19 P6, 20 P7

## PCF85063AT_AAZ
designator IC?
Integrated Circuit; Manufacturer_Name: NXP; Manufacturer_Part_Number: PCF85063AT/AAZ; Datasheet Link: http://www.nxp.com/docs/en/data-sheet/PCF85063A.pdf; Height: 1.75mm; Mouser Part Number: 771-PCF85063AT/AAZ; Mouser Price/Stock: https://www.mouser.co.uk/ProductDetail/NXP-Semiconductors/PCF85063AT-AAZ?qs=sV%252BQJnSpgu9E5WpV9lmUdg%3D%3D; Arrow Part Number: PCF85063AT/AAZ; Arrow Price/Stock: https://www.arrow.com/en/products/pcf85063ataaz/nxp-semiconductors?region=nac
footprint SOIC127P600X175-8N
pins: 1 OSCI, 2 OSCO, 3 ~{INT}, 4 VSS, 5 SDA, 6 SCL, 7 CLKOUT, 8 VDD

## PD0922J5050D2
designator Y?
Crystal or Oscillator; Manufacturer_Name: XINGER; Manufacturer_Part_Number: PD0922J5050D2; Datasheet Link: https://www.kynix.com/uploadfiles/pdf8798/PD0922J5050D2.pdf; Height: 0.93mm
footprint PD0922J5050D2
pins: 1 OUTPUT_1, 2 INPUT, 3 MID_2, 4 MID_1, 5 GND, 6 OUTPUT_2

## PDQE30-Q48-S24-D
designator PS?
30 W, 4:1 Input Range, Single Regulated Output, DIP, 1500 Vdc Isolation, Dc-Dc Converter; MP: PDQE30-Q48-S24-D; MF: CUI Inc.; Value: *; Availability: Unavailable; Package: DIP-6; Check_prices: https://www.snapeda.com/parts/PDQE30-Q48-S24-D/CUI/view-part/?ref=eda; SnapEDA_Link: https://www.snapeda.com/parts/PDQE30-Q48-S24-D/CUI/view-part/?ref=snap; Price: None
footprint PDQE30
pins: 1 CTRL (in), 2 GND (power), 3 VIN (in), 4 VO (out), 5 TRIM, 6 0V (out)

## PE005-001NB
designator XT?  (value not drawn)
RF COVER, PE005-001NB; Value: *
footprint PE005-001 (Footprint not found)
pins: 1, 2
text: RF; COVER

## PE145
designator XT?, comment PE145 RF COVER  (value not drawn)
RF COVER, PE145; Value: *
footprint PE145 (Footprint not found)
pins: 1, 2
text: RF; COVER

## PE150
designator XT?, comment PE150 RF COVER  (value not drawn)
RF COVER, PE150; Value: *
footprint PE150 (Footprint not found)
pins: 1, 2
text: RF; COVER

## PESD2CAN, 215
designator D?, comment PESD2CAN
Diode ESD (Uni-directional); Manufacturer_Name: Nexperia; Manufacturer_Part_Number: PESD2CAN24T-QR; Datasheet Link: https://assets.nexperia.com/documents/data-sheet/PESD2CAN.pdf; Height: 1.1mm
footprint SOT95P230X110-3N
pins: 1 CAT_1, 2 CAT_2, 3 COM

## PESD5V0S2BT,215
designator D?
DIODE TVS 5VWM 14VC SOT23; Manufacturer_Name: Nexperia; Datasheet Link: https://assets.nexperia.com/documents/data-sheet/PESD5V0S2BT.pdf; Height: 1.1mm; Manufacturer_Part_Number: PESD5V0S2BT,215; Mouser Part Number: 771-PESD5V0S2BT-T/R; Mouser Price/Stock: https://www.mouser.co.uk/ProductDetail/Nexperia/PESD5V0S2BT215?qs=LOCUfHb8d9vg1bGYYJyeQQ%3D%3D; Arrow Part Number: PESD5V0S2BT,215; Arrow Price/Stock: https://www.arrow.com/en/products/pesd5v0s2bt215/nexperia?region=nac
footprint SOT95P230X110-3N
pins: 1 CAT_1, 2 CAT_2, 3 COM

## PESD15VL2BT,215
designator D?
Diode; Manufacturer_Name: Nexperia; Manufacturer_Part_Number: PESD15VL2BT,215; Datasheet Link: https://assets.nexperia.com/documents/data-sheet/PESDXL2BT_SER.pdf; Height: 1.1mm; Mouser Part Number: 771-PESD15VL2BT-T/R; Mouser Price/Stock: https://www.mouser.co.uk/ProductDetail/Nexperia/PESD15VL2BT215?qs=LOCUfHb8d9vyDy2ag0hbbA%3D%3D; Arrow Part Number: PESD15VL2BT,215; Arrow Price/Stock: https://www.arrow.com/en/products/pesd15vl2bt215/nexperia?region=nac
footprint SOT95P230X110-3N
pins: 1 cathode_1, 2 cathode_2, 3 double_cathode

## PH1RB-03-UA
designator J?
Connector; Manufacturer_Name: Adam Tech; Manufacturer_Part_Number: PH1RB-03-UA; Datasheet Link: https://app.adam-tech.com/products/download/data_sheet/201281/ph1rb-xx-ua-data-sheet.pdf; Height: 3.008mm; Mouser Part Number: 737-PH1RB-03-UA; Mouser Price/Stock: https://www.mouser.co.uk/ProductDetail/Adam-Tech/PH1RB-03-UA?qs=HoCaDK9Nz5dMpkzb4k6qpA%3D%3D; Arrow Part Number: PH1RB-03-UA; Arrow Price/Stock: https://www.arrow.com/en/products/ph1rb-03-ua/adam-tech?utm_currency=USD&region=nac
footprint HDRRA3W64P0X254_1X3_762X250X301P
pins: 1, 2, 3

## PI3USB302-AZBEX
designator IC?
Integrated Circuit; Manufacturer_Name: Diodes Incorporated; Manufacturer_Part_Number: PI3USB302-AZBEX; Datasheet Link: https://www.diodes.com//assets/Datasheets/PI3USB302-A.pdf; Height: 1mm; Mouser Part Number: 729-PI3USB302-AZBEX; Mouser Price/Stock: https://www.mouser.co.uk/ProductDetail/Diodes-Incorporated/PI3USB302-AZBEX?qs=RX7uCqH05oaFctr44Vdm4w%3D%3D; Arrow Part Number: PI3USB302-AZBEX; Arrow Price/Stock: https://www.arrow.com/en/products/pi3usb302-azbex/diodes-incorporated?utm_currency=USD&region=nac
footprint PI3USB302AZBEX
pins: 1 VDD_1, 2 PD, 3 TX+, 4 TX-, 5 GND_1, 6 VDD_2, 7 RX+, 8 RX-, 9 SEL, 10 VDD_3, 11 GND_2, 12 RX2-, 13 RX2+, 14 TX2-, 15 TX2+, 16 RX1-, 17 RX1+, 18 TX1-, 19 TX1+, 20 GND_3, 21 GND_4

## PKLCS1212E4001-R1
designator LS?
Loudspeaker or Buzzer; Manufacturer_Name: Murata Electronics; Manufacturer_Part_Number: PKLCS1212E4001-R1; Datasheet Link: https://componentsearchengine.com/Datasheets/2/PKLCS1212E4001-R1.pdf; Mouser Part Number: 81-PKLCS1212E4001; Mouser Price/Stock: https://www.mouser.co.uk/ProductDetail/Murata-Electronics/PKLCS1212E4001-R1?qs=obr%252BoSDNKM%252Btd7GB2KoUgw%3D%3D; Arrow Part Number: PKLCS1212E4001-R1; Arrow Price/Stock: https://www.arrow.com/en/products/pklcs1212e4001-r1/murata-manufacturing?region=europe
footprint PKLCS1212E4001
pins: 1, 2

## PLD-6_1
designator XP?, comment PLD-6
Connector
footprint PLD-6
pins: 1, 2, 3, 4, 5, 6

## PLD-8
designator XP?
Connector; Manufacturer_Name: JST (JAPAN SOLDERLESS TERMINALS); Manufacturer_Part_Number: S4B-PH-SM4-TB(LF)(SN); Datasheet Link: http://uk.rs-online.com/web/p/products/6881366; Arrow Part Number: S4B-PH-SM4-TB(LF)(SN); Arrow Price/Stock: https://www.arrow.com/en/products/s4b-ph-sm4-tb-lf-sn/jst-manufacturing; System: Connector
footprint PLD-8
pins: 1, 2, 3, 4, 5, 6, 7, 8
text: КОНТ; ЦЕПЬ

## PLD-8_1
designator XP?
Connector; Manufacturer_Name: JST (JAPAN SOLDERLESS TERMINALS); Manufacturer_Part_Number: S4B-PH-SM4-TB(LF)(SN); Datasheet Link: http://uk.rs-online.com/web/p/products/6881366; Arrow Part Number: S4B-PH-SM4-TB(LF)(SN); Arrow Price/Stock: https://www.arrow.com/en/products/s4b-ph-sm4-tb-lf-sn/jst-manufacturing; System: Connector
footprint PLD-8
pins: 1, 2, 3, 4, 5, 6, 7, 8

## PLD-10
designator XP?
Connector; Manufacturer_Name: JST (JAPAN SOLDERLESS TERMINALS); Datasheet Link: http://uk.rs-online.com/web/p/products/6881366; Manufacturer_Part_Number: PLD-10; Arrow Part Number: S4B-PH-SM4-TB(LF)(SN); Arrow Price/Stock: https://www.arrow.com/en/products/s4b-ph-sm4-tb-lf-sn/jst-manufacturing; System: Connector
footprint PLD-10
pins: 1, 2, 3, 4, 5, 6, 7, 8, 9, 10
text: КОНТ; ЦЕПЬ

## PLD-10_1
designator XP?, comment PLD-10
Connector; Manufacturer_Name: JST (JAPAN SOLDERLESS TERMINALS); Datasheet Link: http://uk.rs-online.com/web/p/products/6881366; Manufacturer_Part_Number: PLD-10; Arrow Part Number: S4B-PH-SM4-TB(LF)(SN); Arrow Price/Stock: https://www.arrow.com/en/products/s4b-ph-sm4-tb-lf-sn/jst-manufacturing; System: Connector
footprint PLD-10
pins: 1, 2, 3, 4, 5, 6, 7, 8, 9, 10

## PLD-12
designator J?
Connector; Manufacturer_Name: JST (JAPAN SOLDERLESS TERMINALS); Manufacturer_Part_Number: S4B-PH-SM4-TB(LF)(SN); Datasheet Link: http://uk.rs-online.com/web/p/products/6881366; Arrow Part Number: S4B-PH-SM4-TB(LF)(SN); Arrow Price/Stock: https://www.arrow.com/en/products/s4b-ph-sm4-tb-lf-sn/jst-manufacturing
footprint PLD-12
pins: 1, 2, 3, 4, 5, 6, 7, 8, 9, 10, 11, 12

## PLD-14
designator X?
Connector; Manufacturer: Connfly; Part Number1: DS1021-2x7; Height: 8.5mm; System: Connector; Part Number: PLD-14
footprint PLD-14 (Footprint not found)
pins: 1, 2, 3, 4, 5, 6, 7, 8, 9, 10, 11, 12, 13, 14
text: КОНТ; ЦЕПЬ

## PLD-16
designator X?
Connector; Manufacturer: Connfly; Part Number1: DS1021-2*8; Height: 8.5mm; Part Number: PLD-16; System: Connector
footprint PLD-16
pins: 1, 2, 3, 4, 5, 6, 7, 8, 9, 10, 11, 12, 13, 14, 15, 16
text: КОНТ; ЦЕПЬ

## PLD-20
designator X?
Connector; Manufacturer: Connfly; Part Number1: DS1021-2*10; Height: 8.5mm; Part Number: PLD-20; System: Connector
footprint PLD-20
pins: 1, 2, 3, 4, 5, 6, 7, 8, 9, 10, 11, 12, 13, 14, 15, 16, 17, 18, 19, 20
text: КОНТ; ЦЕПЬ

## PLD-20_1
designator X?, comment PLD-20
Connector; Manufacturer: Connfly; Part Number1: DS1021-2*10; Height: 8.5mm; Part Number: PLD-20; System: Connector
footprint PLD-20
pins: 1, 2, 3, 4, 5, 6, 7, 8, 9, 10, 11, 12, 13, 14, 15, 16, 17, 18, 19, 20

## PLD-20R
designator X?
Connector; Manufacturer: Connfly; Part Number1: DS1022-2X10; Height: 8.5mm; Part Number: PLD-20R; System: Connector
footprint PLD-20R
pins: 1, 2, 3, 4, 5, 6, 7, 8, 9, 10, 11, 12, 13, 14, 15, 16, 17, 18, 19, 20
text: КОНТ; ЦЕПЬ

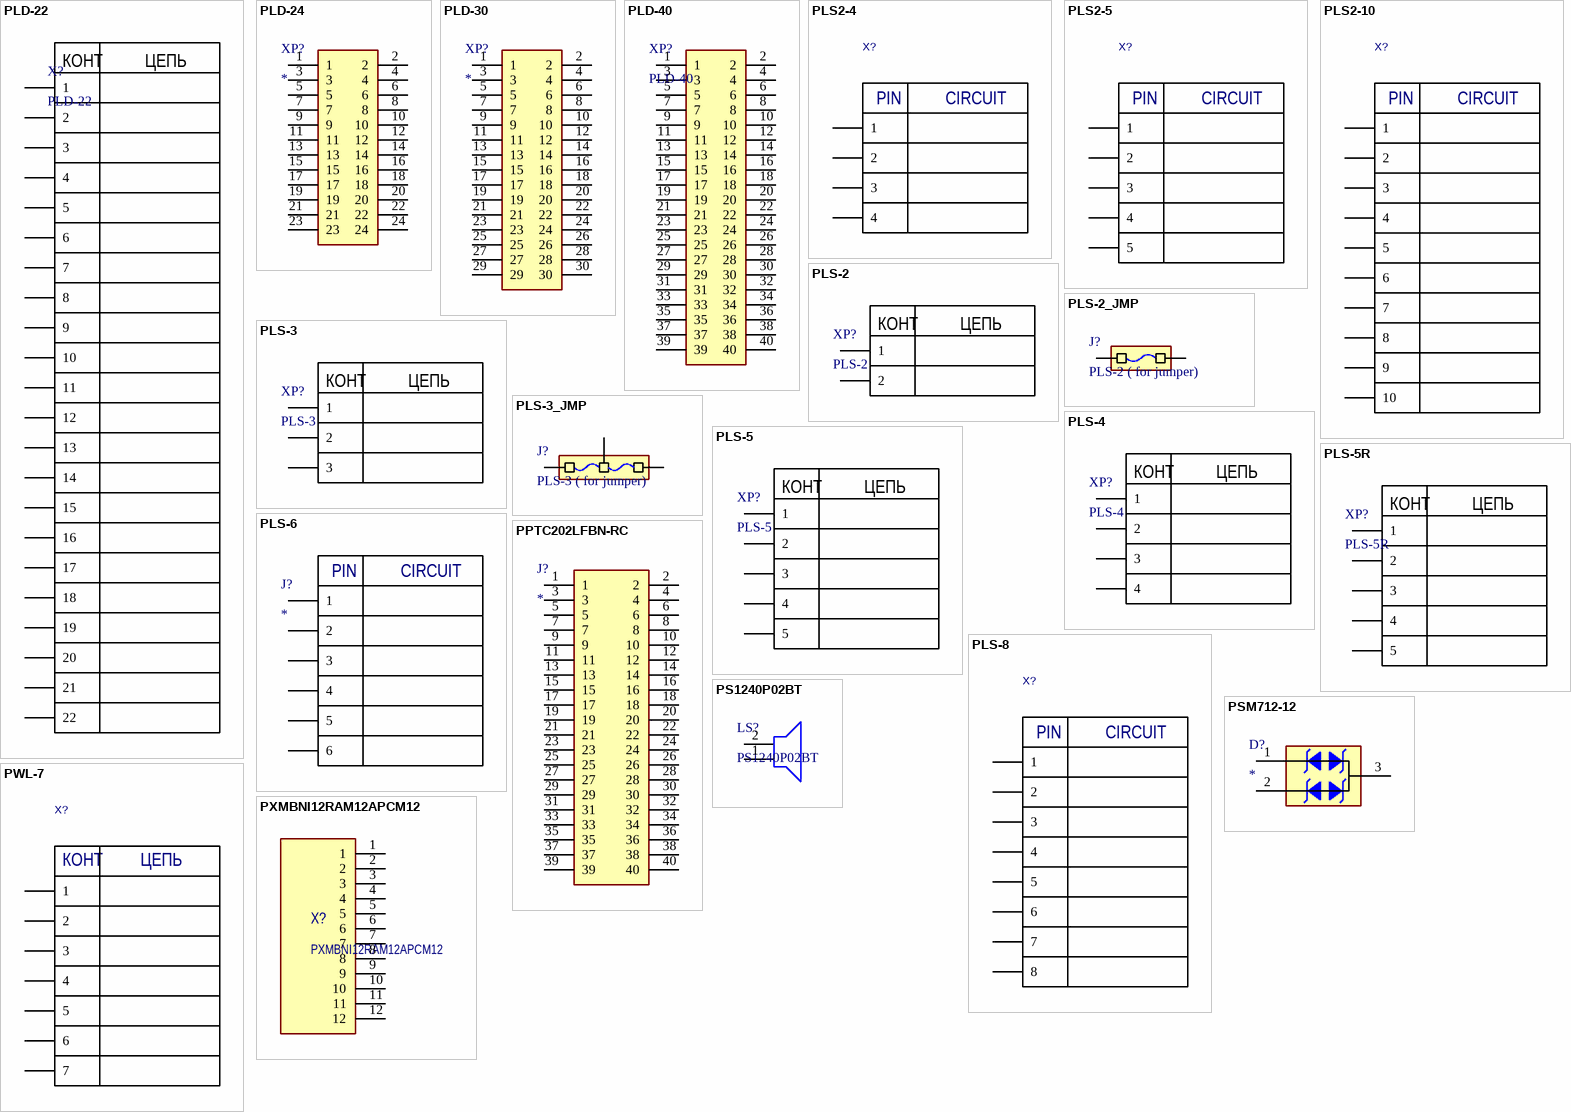
[diagram p35: symbols PLD-22 to PXMBNI12RAM12APCM12]

## PLD-22
designator X?
Connector; Manufacturer: Connfly; Part Number1: DS1021-2*11; Height: 8.5mm; Part Number: PLD-22; System: Connector
footprint PLD-22 (Footprint not found)
pins: 1, 2, 3, 4, 5, 6, 7, 8, 9, 10, 11, 12, 13, 14, 15, 16, 17, 18, 19, 20, 21, 22
text: КОНТ; ЦЕПЬ

## PLD-24
designator XP?
CONN HEADER VERT 24POS 2.54MM
footprint PLD-24
pins: 1, 2, 3, 4, 5, 6, 7, 8, 9, 10, 11, 12, 13, 14, 15, 16, 17, 18, 19, 20, 21, 22, 23, 24

## PLD-30
designator XP?
CONN HEADER VERT 30POS 2.54MM; Manufacturer_Name: JST (JAPAN SOLDERLESS TERMINALS); Manufacturer_Part_Number: S4B-PH-SM4-TB(LF)(SN); Datasheet Link: http://uk.rs-online.com/web/p/products/6881366; Arrow Part Number: S4B-PH-SM4-TB(LF)(SN); Arrow Price/Stock: https://www.arrow.com/en/products/s4b-ph-sm4-tb-lf-sn/jst-manufacturing
footprint PLD-30
pins: 1, 2, 3, 4, 5, 6, 7, 8, 9, 10, 11, 12, 13, 14, 15, 16, 17, 18, 19, 20, 21, 22, 23, 24, 25, 26, 27, 28, 29, 30

## PLD-40
designator XP?
CONN HEADER VERT 40POS 2.54MM; Manufacturer_Name: JST (JAPAN SOLDERLESS TERMINALS); Datasheet Link: http://uk.rs-online.com/web/p/products/6881366; Arrow Part Number: S4B-PH-SM4-TB(LF)(SN); Arrow Price/Stock: https://www.arrow.com/en/products/s4b-ph-sm4-tb-lf-sn/jst-manufacturing
footprint PLD-40
pins: 1, 2, 3, 4, 5, 6, 7, 8, 9, 10, 11, 12, 13, 14, 15, 16, 17, 18, 19, 20, 21, 22, 23, 24, 25, 26, 27, 28, 29, 30, 31, 32, 33, 34, 35, 36, 37, 38, 39, 40

## PLS2-4
designator X?  (value not drawn)
Connector; Manufacturer: Connfly; Part Number1: DS1025-01-1x4; Part Number: PLS2-4; System: Connector
footprint PLS2-4
pins: 1, 2, 3, 4
text: PIN; CIRCUIT

## PLS2-5
designator X?  (value not drawn)
Connector; Manufacturer: Connfly; Part Number: PLS2-4; Part Number1: DS1025-01-1x4; System: Connector
footprint PLS2-5
pins: 1, 2, 3, 4, 5
text: PIN; CIRCUIT

## PLS2-10
designator X?  (value not drawn)
Connector; Manufacturer: Connfly; Part Number1: DS1025-01-1x10; Part Number: PLS2-10; System: Connector
footprint PLS2-10
pins: 1, 2, 3, 4, 5, 6, 7, 8, 9, 10
text: PIN; CIRCUIT

## PLS-2
designator XP?
Connector; Manufacturer_Name: JST (JAPAN SOLDERLESS TERMINALS); Datasheet Link: http://uk.rs-online.com/web/p/products/6881366; Arrow Part Number: S4B-PH-SM4-TB(LF)(SN); Arrow Price/Stock: https://www.arrow.com/en/products/s4b-ph-sm4-tb-lf-sn/jst-manufacturing; System: Connector
footprint PLS-2 (Footprint not found)
pins: 1, 2
text: КОНТ; ЦЕПЬ

## PLS-2_JMP
designator J?, comment PLS-2 ( for jumper)
Jumper DS1021-1x2 + MJ-0-6; Manufacturer_Name: Connfly; Manufacturer_Part_Number: DS1021-1x2; Manufacturer_Part_Number_1: PLS-2
footprint PLS-2
pins: 1, 2

## PLS-3
designator XP?
Connector; Manufacturer_Name: JST (JAPAN SOLDERLESS TERMINALS); Datasheet Link: http://uk.rs-online.com/web/p/products/6881366; Arrow Part Number: S4B-PH-SM4-TB(LF)(SN); Arrow Price/Stock: https://www.arrow.com/en/products/s4b-ph-sm4-tb-lf-sn/jst-manufacturing; System: Connector
footprint PLS-3
pins: 1, 2, 3
text: КОНТ; ЦЕПЬ

## PLS-3_JMP
designator J?, comment PLS-3 ( for jumper)
Jumper DS1021-1x3+ MJ-0-6; Manufacturer_Name: Connfly; Manufacturer_Part_Number: DS1021-1x3; Manufacturer_Part_Number_1: PLS-3
footprint PLS-3
pins: 1, 2, 3

## PLS-4
designator XP?
Connector; Manufacturer_Name: JST (JAPAN SOLDERLESS TERMINALS); Datasheet Link: http://uk.rs-online.com/web/p/products/6881366; Arrow Part Number: S4B-PH-SM4-TB(LF)(SN); Arrow Price/Stock: https://www.arrow.com/en/products/s4b-ph-sm4-tb-lf-sn/jst-manufacturing; System: Connector
footprint PLS-4 (Footprint not found)
pins: 1, 2, 3, 4
text: КОНТ; ЦЕПЬ

## PLS-5
designator XP?
Connector; Manufacturer_Name: JST (JAPAN SOLDERLESS TERMINALS); Manufacturer_Part_Number: S4B-PH-SM4-TB(LF)(SN); Datasheet Link: http://uk.rs-online.com/web/p/products/6881366; Arrow Part Number: S4B-PH-SM4-TB(LF)(SN); Arrow Price/Stock: https://www.arrow.com/en/products/s4b-ph-sm4-tb-lf-sn/jst-manufacturing; System: Connector
footprint PLS-5
pins: 1, 2, 3, 4, 5
text: КОНТ; ЦЕПЬ

## PLS-5R
designator XP?
Connector; Manufacturer_Name: JST (JAPAN SOLDERLESS TERMINALS); Manufacturer_Part_Number: S4B-PH-SM4-TB(LF)(SN); Datasheet Link: http://uk.rs-online.com/web/p/products/6881366; Arrow Part Number: S4B-PH-SM4-TB(LF)(SN); Arrow Price/Stock: https://www.arrow.com/en/products/s4b-ph-sm4-tb-lf-sn/jst-manufacturing; System: Connector
footprint PLS-5R (Footprint not found)
pins: 1, 2, 3, 4, 5
text: КОНТ; ЦЕПЬ

## PLS-6
designator J?
Connector; Manufacturer_Name: JST (JAPAN SOLDERLESS TERMINALS); Manufacturer_Part_Number: S4B-PH-SM4-TB(LF)(SN); Datasheet Link: http://uk.rs-online.com/web/p/products/6881366; Arrow Part Number: S4B-PH-SM4-TB(LF)(SN); Arrow Price/Stock: https://www.arrow.com/en/products/s4b-ph-sm4-tb-lf-sn/jst-manufacturing
footprint PLS-6
pins: 1, 2, 3, 4, 5, 6
text: PIN; CIRCUIT

## PLS-8
designator X?  (value not drawn)
Connector; Manufacturer: Connfly; Part Number1: DS1021-1x8; Part Number: PLS-8; System: Connector
footprint PLS-8
pins: 1, 2, 3, 4, 5, 6, 7, 8
text: PIN; CIRCUIT

## PPTC202LFBN-RC
designator J?
Connector; Manufacturer_Name: Sullins; Manufacturer_Part_Number: PPTC202LFBN-RC; Datasheet Link: https://drawings-pdf.s3.amazonaws.com/10492.pdf; Height: 8.5mm
footprint SHDR40W80P254_2X20_5130X508X850P
pins: 1, 2, 3, 4, 5, 6, 7, 8, 9, 10, 11, 12, 13, 14, 15, 16, 17, 18, 19, 20, 21, 22, 23, 24, 25, 26, 27, 28, 29, 30, 31, 32, 33, 34, 35, 36, 37, 38, 39, 40

## PS1240P02BT
designator LS?
Loudspeaker or Buzzer; Manufacturer_Name: TDK; Datasheet Link: https://product.tdk.com/system/files/dam/doc/product/sw_piezo/sw_piezo/piezo-buzzer/catalog/piezoelectronic_buzzer_ps_en.pdf; Manufacturer_Part_Number: PS1240P02BT; Mouser Part Number: 810-PS1240P02BT; Mouser Price/Stock: https://www.mouser.co.uk/ProductDetail/TDK/PS1240P02BT?qs=d7g9p1yFhWaZXSY9MjKMkw%3D%3D; Arrow Part Number: PS1240P02BT; Arrow Price/Stock: https://www.arrow.com/en/products/ps1240p02bt/tdk?utm_currency=USD&region=nac
footprint PS1240P02BT
pins: 1, 2

## PSM712-12
designator D?
TVS Diode (Bi-directional); Manufacturer_Name: ProTek Devices; Manufacturer_Part_Number: PSM712-12; Datasheet Link: http://www.protekdevices.com/xyz/documents/datasheets/psm712.pdf; Height: 1.21mm
footprint PSM71212
pins: 1, 2, 3

## PWL-7
designator X?  (value not drawn)
Connector; Manufacturer: Connfly; Part Number1: DS1072-7-M; System: Connector; Part Number: PWL-7
footprint PWL-7
pins: 1, 2, 3, 4, 5, 6, 7
text: КОНТ; ЦЕПЬ

## PXMBNI12RAM12APCM12
designator X?
Bulgin M12 IP67 connector, PCB
footprint PXMBNI12RAM12APCM12 (Bulgin 12 pin IP67)
pins: 1, 2, 3, 4, 5, 6, 7, 8, 9, 10, 11, 12

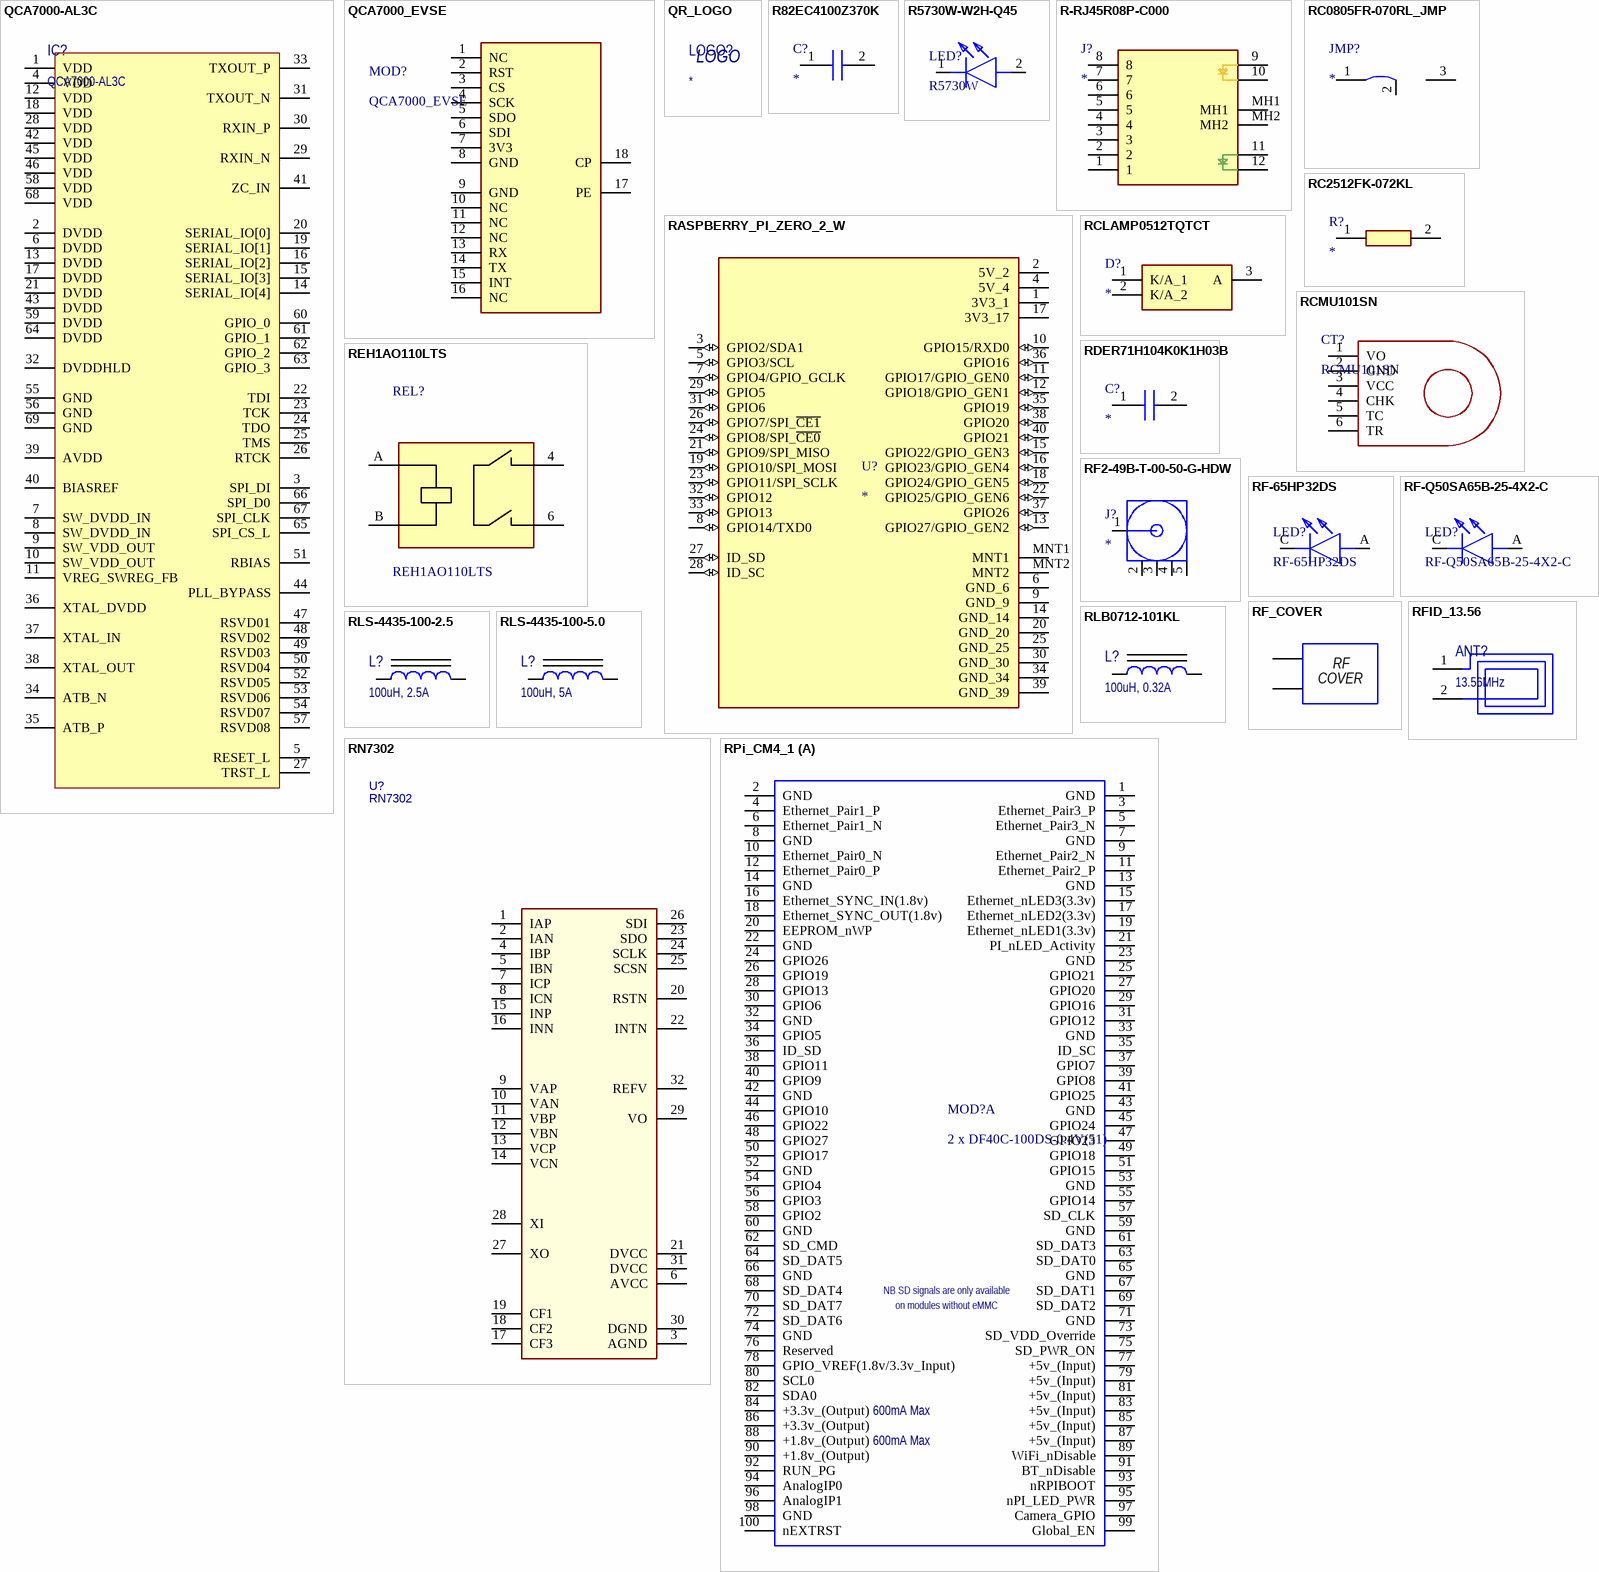
[diagram p36: symbols QCA7000-AL3C to RPi_CM4_1]

## QCA7000-AL3C
designator IC?
IC AUTO CCS QFN-68
footprint QFN40P800X800X90_HS-69N (QFN, 68-Leads, Body 8,00x8,00mm, Pitch 0,40mm, Thermal Pad 6,20x6,20mm, IPC Medium Density)
pins: 1 VDD, 2 DVDD, 3 SPI_DI, 4 VDD, 5 RESET_L, 6 DVDD, 7 SW_DVDD_IN, 8 SW_DVDD_IN, 9 SW_VDD_OUT, 10 SW_VDD_OUT, 11 VREG_SWREG_FB, 12 VDD, 13 DVDD, 14 SERIAL_IO[4], 15 SERIAL_IO[3], 16 SERIAL_IO[2], 17 DVDD, 18 VDD, 19 SERIAL_IO[1], 20 SERIAL_IO[0], 21 DVDD, 22 TDI, 23 TCK, 24 TDO, 25 TMS, 26 RTCK, 27 TRST_L, 28 VDD, 29 RXIN_N, 30 RXIN_P, 31 TXOUT_N, 32 DVDDHLD, 33 TXOUT_P, 34 ATB_N, 35 ATB_P, 36 XTAL_DVDD, 37 XTAL_IN, 38 XTAL_OUT, 39 AVDD, 40 BIASREF, 41 ZC_IN, 42 VDD, 43 DVDD, 44 PLL_BYPASS, 45 VDD, 46 VDD, 47 RSVD01, 48 RSVD02, 49 RSVD03, 50 RSVD04, 51 RBIAS, 52 RSVD05, 53 RSVD06, 54 RSVD07, 55 GND, 56 GND, 57 RSVD08, 58 VDD, 59 DVDD, 60 GPIO_0, 61 GPIO_1, 62 GPIO_2, 63 GPIO_3, 64 DVDD, 65 SPI_CS_L, 66 SPI_D0, 67 SPI_CLK, 68 VDD, 69 GND

## QCA7000_EVSE
designator MOD?
QCA7000_EVSE MODULE, 2xPBS-8 + 2xPBS-2; Manufacturer_Name: TZT; Manufacturer_Part_Number: TZT_MCP2515; Part Number: 2xPBS-8 + 2xPBS-2
footprint QCA7000_EVSE_MOD (Footprint not found)
pins: 1 NC, 2 RST, 3 CS, 4 SCK, 5 SDO, 6 SDI, 7 3V3, 8 GND, 9 GND, 10 NC, 11 NC, 12 NC, 13 RX, 14 TX, 15 INT, 16 NC, 17 PE, 18 CP

## QR_LOGO
designator LOGO?  (no BOM)
footprint QR_LOGO
footprint QR_LOGO_20
footprint QR_LOGO_15
text: LOGO

## R82EC4100Z370K
designator C?
Capacitor; Manufacturer_Name: KEMET; Manufacturer_Part_Number: R82EC4100Z370K; Datasheet Link: https://content.kemet.com/datasheets/KEM_F3101_R82.pdf; Mouser Part Number: 80-R82EC4100Z370K; Mouser Price/Stock: https://www.mouser.co.uk/ProductDetail/KEMET/R82EC4100Z370K?qs=MdJgNetHbfnzRxbVzlx9GA%3D%3D; Arrow Part Number: R82EC4100Z370K; Arrow Price/Stock: https://www.arrow.com/en/products/r82ec4100z370k/kemet-corporation?region=nac
footprint R82(7.2X6)
pins: 1, 2

## R5730W-W2H-Q45
designator LED?, comment R5730W
LED, 5730, 6500K,; Manufacturer_Name: Hongli Zhihui (HONGLITRONIC); Manufacturer_Part_Number: HL-EMC-3030D49W-2C-S1-HR3; Datasheet Link: https://4donline.ihs.com/images/VipMasterIC/IC/GHTC/GHTCS01244/GHTCS01244-1.pdf?hkey=EF798316E3902B6ED9A73243A3159BB0; Height: 0.67mm
footprint HLEMC3030D49W2CS1HR3
pins: 1 K, 2 A

## R-RJ45R08P-C000
designator J?
Connector, RJ-45; Manufacturer_Name: Shenzhen Cankemeng; Manufacturer_Part_Number: R-RJ45R08P-C000; Datasheet Link: https://datasheet.lcsc.com/szlcsc/1905231215_Shenzhen-Cankemeng-R-RJ45R08P-C000_C386757.pdf; Height: 13.4mm
footprint RRJ45R08PC000
pins: 1, 2, 3, 4, 5, 6, 7, 8, 9 CATHODE, 10 ANODE_1, 11 CATHODE_, 12 ANODE_2, MH1, MH2

## RASPBERRY_PI_ZERO_2_W
designator U?
Raspberry Pi Zero 2 W; SnapEDA_Link: https://www.snapeda.com/parts/RASPBERRY%20PI%20ZERO%202%20W/Raspberry+Pi/view-part/?ref=snap; Package: None; Value: *; MF: Raspberry Pi; MP: RASPBERRY PI ZERO 2 W; Check_prices: https://www.snapeda.com/parts/RASPBERRY%20PI%20ZERO%202%20W/Raspberry+Pi/view-part/?ref=eda
footprint MODULE_RASPBERRY_PI_ZERO_2_W
footprint DS101340SSIB1B0
footprint PLD-40
pins: 1 3V3_1 (power), 2 5V_2 (power), 3 GPIO2/SDA1 (io), 4 5V_4 (power), 5 GPIO3/SCL (io), 6 GND_6 (power), 7 GPIO4/GPIO_GCLK (io), 8 GPIO14/TXD0 (io), 9 GND_9 (power), 10 GPIO15/RXD0 (io), 11 GPIO17/GPIO_GEN0 (io), 12 GPIO18/GPIO_GEN1 (io), 13 GPIO27/GPIO_GEN2 (io), 14 GND_14 (power), 15 GPIO22/GPIO_GEN3 (io), 16 GPIO23/GPIO_GEN4 (io), 17 3V3_17 (power), 18 GPIO24/GPIO_GEN5 (io), 19 GPIO10/SPI_MOSI (io), 20 GND_20 (power), 21 GPIO9/SPI_MISO (io), 22 GPIO25/GPIO_GEN6 (io), 23 GPIO11/SPI_SCLK (io), 24 GPIO8/SPI_~{CE0} (io), 25 GND_25 (power), 26 GPIO7/SPI_~{CE1} (io), 27 ID_SD (io), 28 ID_SC (io), 29 GPIO5 (io), 30 GND_30 (power), 31 GPIO6 (io), 32 GPIO12 (io), 33 GPIO13 (io), 34 GND_34 (power), 35 GPIO19 (io), 36 GPIO16 (io), 37 GPIO26 (io), 38 GPIO20 (io), 39 GND_39 (power), 40 GPIO21 (io), MNT1 (power), MNT2 (power)

## RC0805FR-070RL_JMP
designator JMP?
Resistor, 0805, 0 Ohm, 3POS JUMPER; Part Number: RC0805FR-070RL; Name: Yageo
footprint JUMPER_3WAY_0805
pins: 1, 2 WIPER, 3

## RC2512FK-072KL
designator R?
Resistor; Manufacturer_Name: KEMET; Manufacturer_Part_Number: RC2512FK-072KL; Datasheet Link: https://www.arrow.com/en/products/rc2512fk-072kl/yageo; Height: 0.65mm; Mouser Part Number: 603-RC2512FK-072KL; Mouser Price/Stock: https://www.mouser.com/Search/Refine.aspx?Keyword=603-RC2512FK-072KL; Arrow Part Number: RC2512FK-072KL; Arrow Price/Stock: https://www.arrow.com/en/products/rc2512fk-072kl/yageo
footprint RESC6431X65N
pins: 1, 2

## RCLAMP0512TQTCT
designator D?
Diode; Manufacturer_Name: SEMTECH; Manufacturer_Part_Number: RCLAMP0512TQTCT; Datasheet Link: https://media.digikey.com/pdf/Data%20Sheets/Semtech%20PDFs/RCLAMP0512TQ_Rev6_12-17-15.pdf; Height: 0.45mm; Mouser Part Number: 947-RCLAMP0512TQTCT; Mouser Price/Stock: https://www.mouser.co.uk/ProductDetail/Semtech/RCLAMP0512TQTCT?qs=rBWM4%252BvDhIfq7vcNOg1BvQ%3D%3D; Arrow Part Number: RCLAMP0512TQTCT; Arrow Price/Stock: https://www.arrow.com/en/products/rclamp0512tqtct/semtech?utm_currency=USD&region=europe
footprint RCLAMP0512TQTCT
pins: 1 K/A_1, 2 K/A_2, 3 A

## RCMU101SN
designator CT?
Resudual Current Sensor; Height: 35; Manufacturer_Part_Number: RCMU101SN
footprint RCMU101SN
pins: 1 VO, 2 GND, 3 VCC, 4 CHK, 5 TC, 6 TR

## RDER71H104K0K1H03B
designator C?
Capacitor; Manufacturer_Name: Murata Electronics; Manufacturer_Part_Number: RDER71H104K0K1H03B; Datasheet Link: https://psearch.en.murata.com/capacitor/product/RDER71H104K0K1H03B.html; Height: 5mm; Mouser Part Number: 81-RDER71H104K0K1H3B; Mouser Price/Stock: https://www.mouser.co.uk/ProductDetail/Murata-Electronics/RDER71H104K0K1H03B?qs=hNud%2FORuBR2GLaz%2FjAabyQ%3D%3D; Arrow Part Number: RDER71H104K0K1H03B; Arrow Price/Stock: https://www.arrow.com/en/products/rder71h104k0k1h03b/murata-manufacturing?region=nac
footprint RDE5C1H330J0M1H03A
pins: 1, 2

## REH1AO110LTS
designator REL?
Power Relay 110VDC, 16A/400V, 1 Form A
footprint REH1AO
pins: 4 COM, 6 COIL_2, A COIL_1, B NC

## RF2-49B-T-00-50-G-HDW
designator J?
Connector, SMA; Manufacturer_Name: Adam Tech; Manufacturer_Part_Number: RF2-49B-T-00-50-G-HDW; Datasheet Link: https://www.digikey.com/en/products/detail/adam-tech/RF2-49B-T-00-50-G-HDW/9831420?msockid=3e3afa68a50969ca3057ef1ca4c9684b; Height: 10.958mm; Arrow Part Number: RF2-49B-T-00-50-G-HDW; Arrow Price/Stock: https://www.arrow.com/en/products/rf2-49b-t-00-50-g-hdw/adam-tech?region=nac
footprint RF249BT0050GHDW
pins: 1, 2, 3, 4, 5

## RF-65HP32DS
designator LED?
LED; Manufacturer_Name: Kingbright; Datasheet Link: https://componentsearchengine.com/Datasheets/2/KA-3528SGC.pdf; Height: 2.1mm; Manufacturer_Part_Number: RF-65HP32DS
footprint RF-65HP32DS
pins: A, C K

## RF-Q50SA65B-25-4X2-C
designator LED?
LED; Manufacturer_Name: Kingbright; Manufacturer_Part_Number: RF-65HP32DS; Datasheet Link: https://componentsearchengine.com/Datasheets/2/KA-3528SGC.pdf; Height: 2.1mm
footprint RF-Q50SA65B
pins: A, C K

## RF_COVER
designator XT?, comment Custom  (value not drawn)
RF COVER; Value: *
footprint RF COVER_4530 (RF COVER)
footprint RF COVER_5030 (RF COVER)
footprint RF COVER_4530_1 (RF COVER)
pins: 1, 2
text: RF; COVER

## RFID_13.56
designator ANT?, comment 13.56MHz  (no BOM)
NFC RFID Antenna 13.56MHz
footprint ANTENNA_30x15 (13.56MHz antenna 30*15mm)
pins: 1, 2

## RLB0712-101KL
designator L?, comment 100uH, 0.32A
Inductor, TH, D7*H12*P3; Manufacturer: RENCO; Manufacturer Part Number: RLS-4435-100-5.0
footprint RLB0712
pins: 1, 2

## RLS-4435-100-2.5
designator L?, comment 100uH, 2.5A
Inductor; Manufacturer: RENCO; Manufacturer Part Number: RLS-4435-100-2.5
footprint RENCO_CM3
pins: 1, 2

## RLS-4435-100-5.0
designator L?, comment 100uH, 5A
Inductor; Manufacturer: RENCO; Manufacturer Part Number: RLS-4435-100-5.0
footprint RENCO_CM5 (Footprint not found)
pins: 1, 2

## RN7302
designator U?
BOM_Manufacturer: 锐能微; spicePre: X; BOM_Manufacturer Part: RN7302; BOM_Supplier: LCSC; BOM_Supplier Part: C112450; BOM_JLCPCB Part Class: Extended Part; spiceSymbolName: RN7302
footprint QFP80P900X900X160-32N
pins: 1 IAP, 2 IAN, 3 AGND, 4 IBP, 5 IBN, 6 AVCC, 7 ICP, 8 ICN, 9 VAP, 10 VAN, 11 VBP, 12 VBN, 13 VCP, 14 VCN, 15 INP, 16 INN, 17 CF3, 18 CF2, 19 CF1, 20 RSTN, 21 DVCC, 22 INTN, 23 SDO, 24 SCLK, 25 SCSN, 26 SDI, 27 XO, 28 XI, 29 VO, 30 DGND, 31 DVCC, 32 REFV

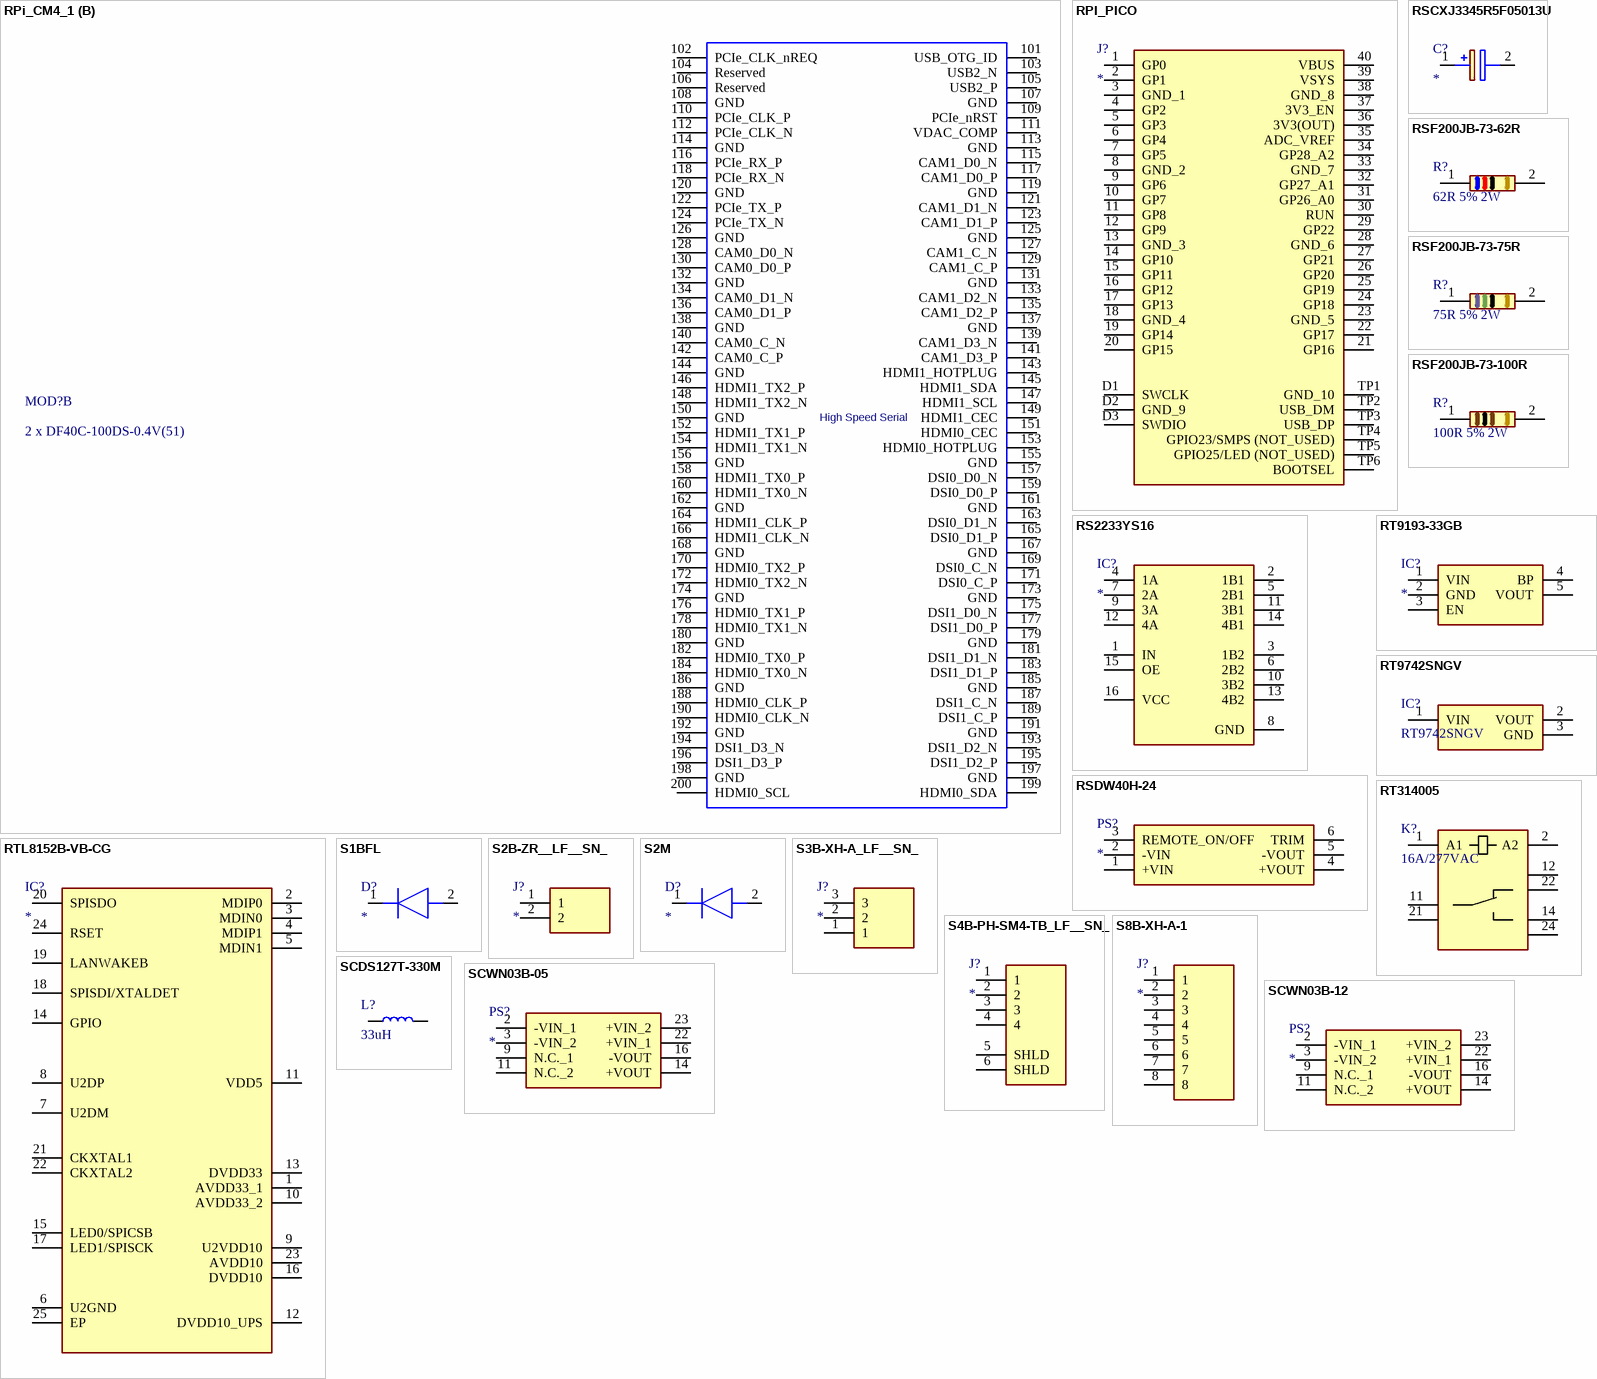
[diagram p37: symbols RPi_CM4_1 to SCWN03B-12]